# Altium schematic symbol library Altera.SchLib: 5 symbols (part 1 of 2)
Pins are listed as number, name and electrical type; pins without a type are passive.

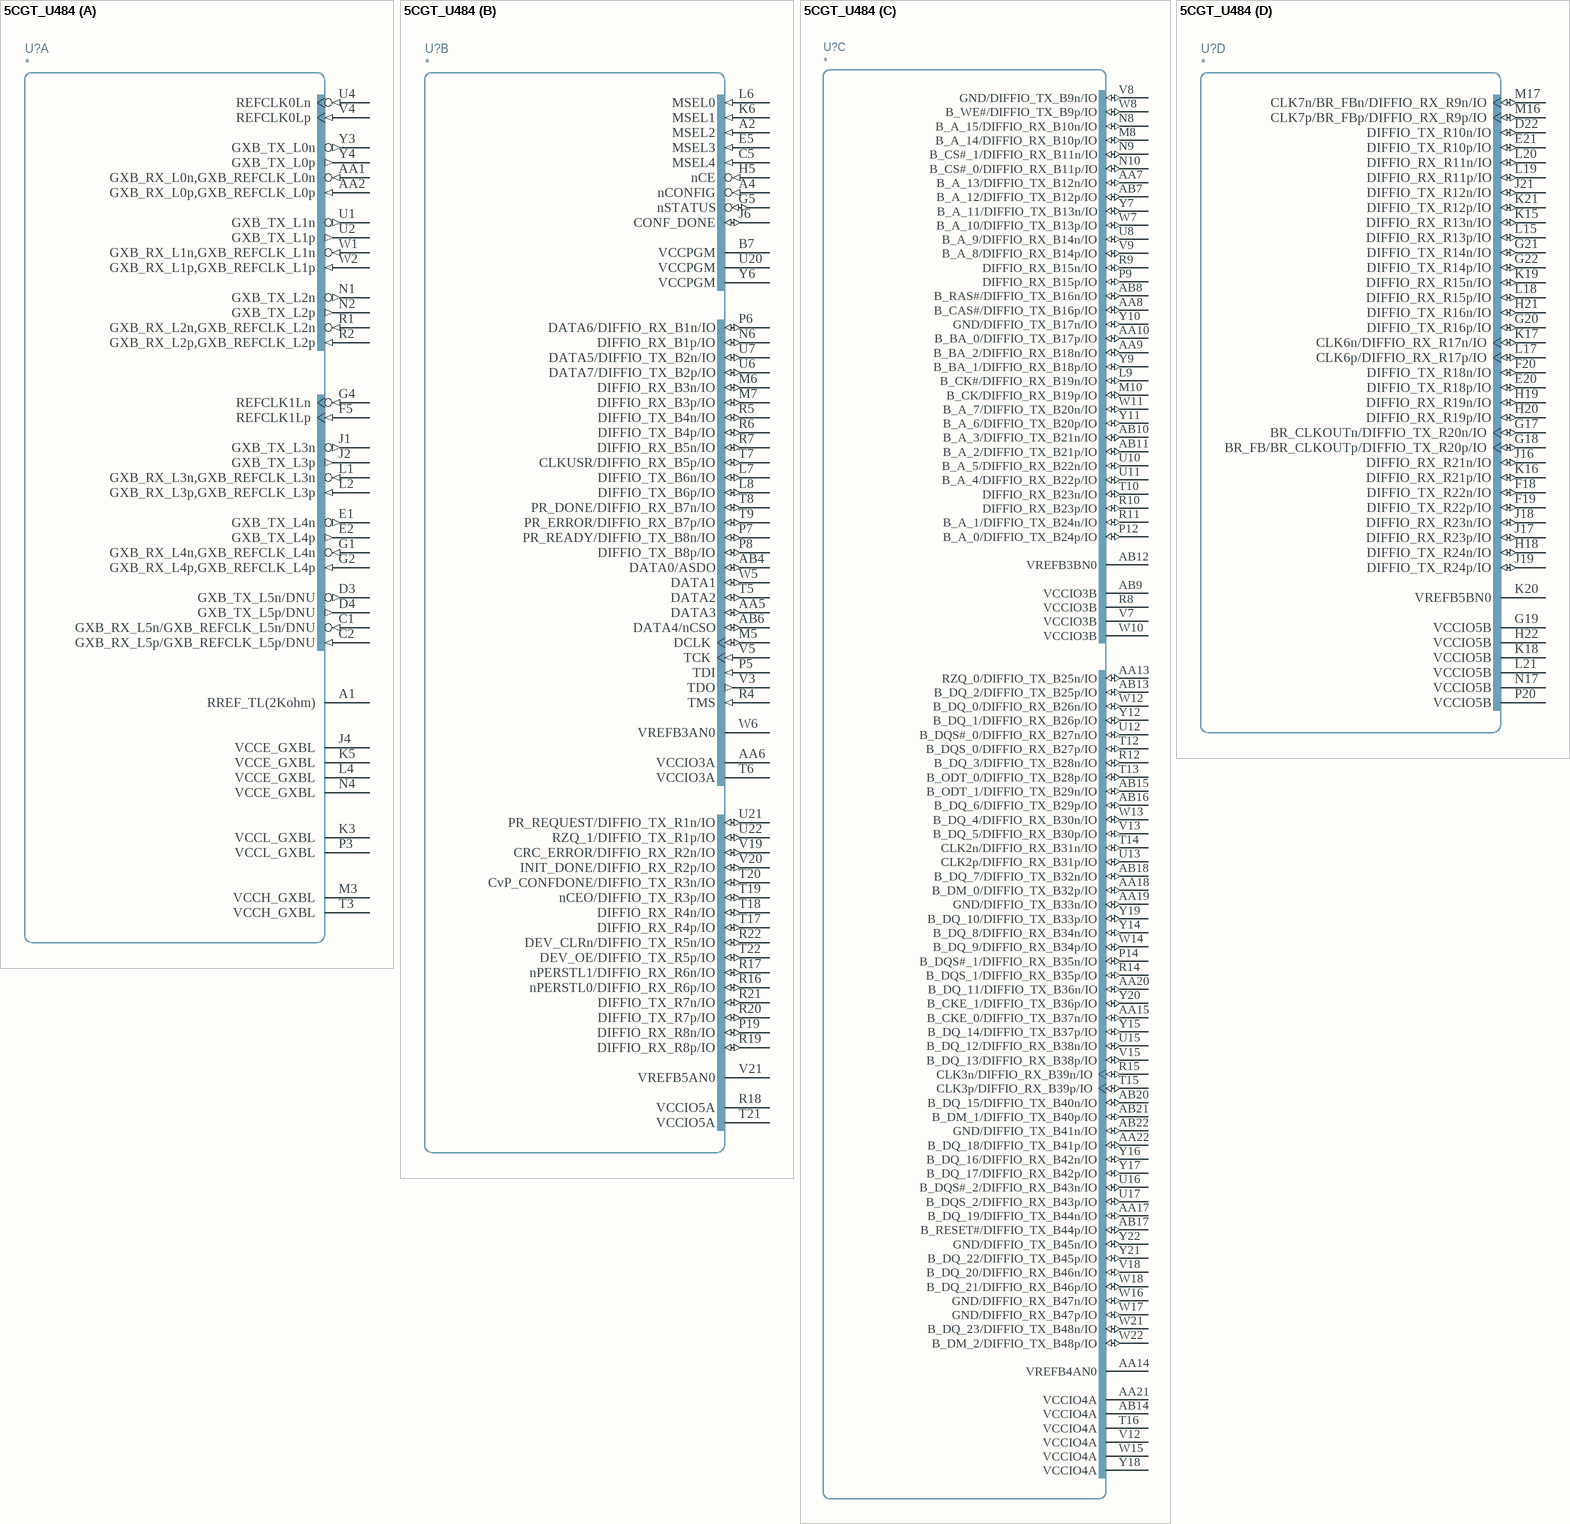
[diagram p0: symbol 5CGT_U484]

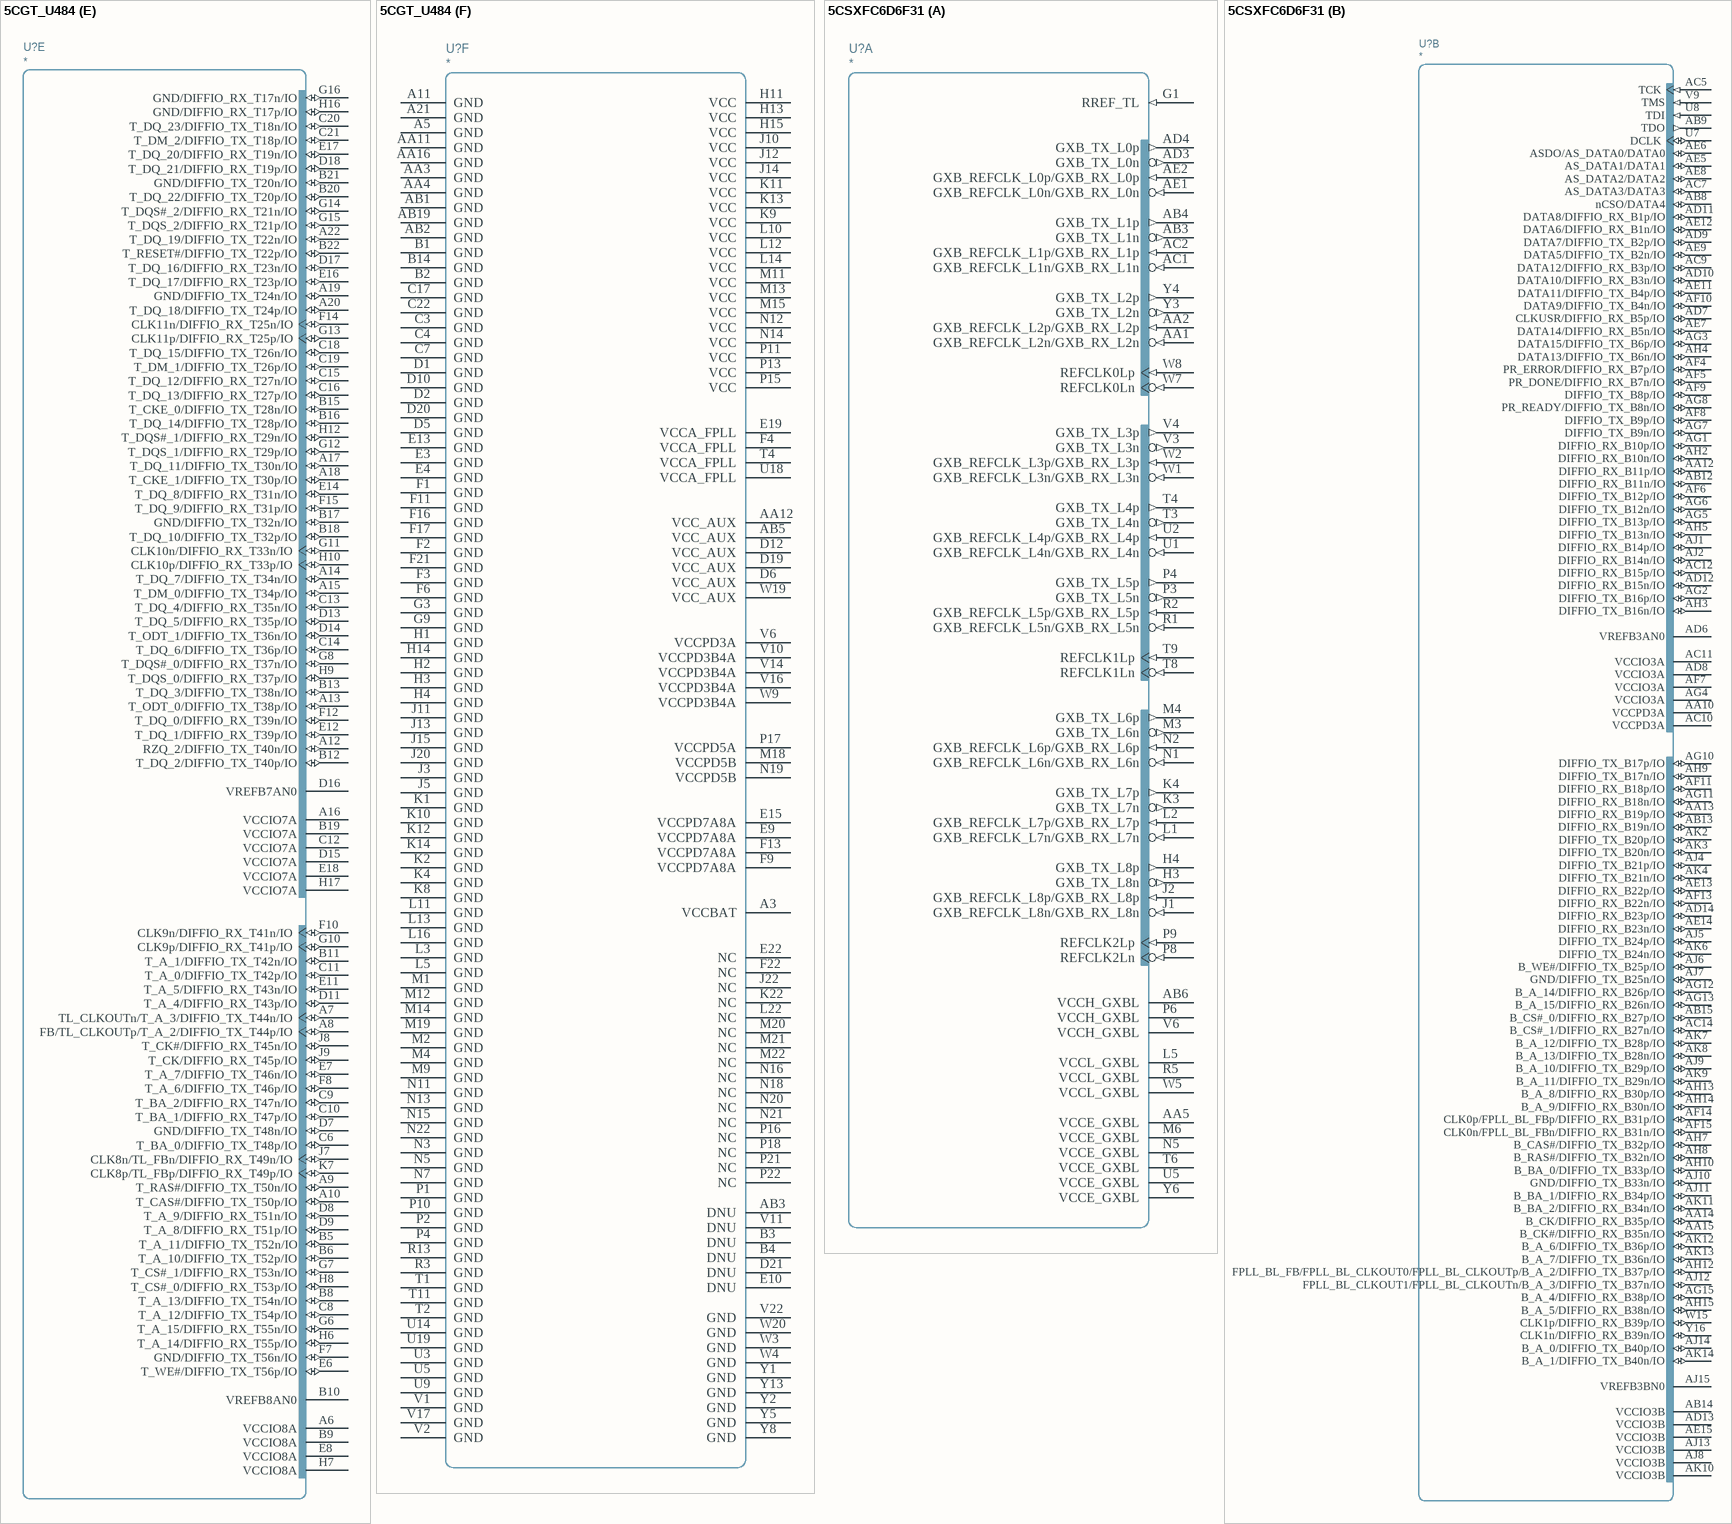
[diagram p1: symbols 5CGT_U484 to 5CSXFC6D6F31]

## 5CGT_U484
designator U?
part A pins: A1 RREF_TL(2Kohm), AA1 GXB_RX_L0n,GXB_REFCLK_L0n (in), AA2 GXB_RX_L0p,GXB_REFCLK_L0p (in), C1 GXB_RX_L5n/GXB_REFCLK_L5n/DNU (in), C2 GXB_RX_L5p/GXB_REFCLK_L5p/DNU (in), D3 GXB_TX_L5n/DNU (out), D4 GXB_TX_L5p/DNU (out), E1 GXB_TX_L4n (out), E2 GXB_TX_L4p (out), F5 REFCLK1Lp (in), G1 GXB_RX_L4n,GXB_REFCLK_L4n (in), G2 GXB_RX_L4p,GXB_REFCLK_L4p (in), G4 REFCLK1Ln (in), J1 GXB_TX_L3n (out), J2 GXB_TX_L3p (out), J4 VCCE_GXBL, K3 VCCL_GXBL, K5 VCCE_GXBL, L1 GXB_RX_L3n,GXB_REFCLK_L3n (in), L2 GXB_RX_L3p,GXB_REFCLK_L3p (in), L4 VCCE_GXBL, M3 VCCH_GXBL, N1 GXB_TX_L2n (out), N2 GXB_TX_L2p (out), N4 VCCE_GXBL, P3 VCCL_GXBL, R1 GXB_RX_L2n,GXB_REFCLK_L2n (in), R2 GXB_RX_L2p,GXB_REFCLK_L2p (in), T3 VCCH_GXBL, U1 GXB_TX_L1n (out), U2 GXB_TX_L1p (out), U4 REFCLK0Ln (in), V4 REFCLK0Lp (in), W1 GXB_RX_L1n,GXB_REFCLK_L1n (in), W2 GXB_RX_L1p,GXB_REFCLK_L1p (in), Y3 GXB_TX_L0n (out), Y4 GXB_TX_L0p (out)
part B pins: A2 MSEL2 (in), A4 nCONFIG (in), AA5 DATA3 (io), AA6 VCCIO3A, AB4 DATA0/ASDO (io), AB6 DATA4/nCSO (io), B7 VCCPGM, C5 MSEL4 (in), E5 MSEL3 (in), G5 nSTATUS (io), H5 nCE (in), J6 CONF_DONE (io), K6 MSEL1 (in), L6 MSEL0 (in), L7 DIFFIO_TX_B6n/IO (io), L8 DIFFIO_TX_B6p/IO (io), M5 DCLK (io), M6 DIFFIO_RX_B3n/IO (io), M7 DIFFIO_RX_B3p/IO (io), N6 DIFFIO_RX_B1p/IO (io), P5 TDI (in), P6 DATA6/DIFFIO_RX_B1n/IO (io), P7 PR_READY/DIFFIO_TX_B8n/IO (io), P8 DIFFIO_TX_B8p/IO (io), P19 DIFFIO_RX_R8n/IO (io), R4 TMS (in), R5 DIFFIO_TX_B4n/IO (io), R6 DIFFIO_TX_B4p/IO (io), R7 DIFFIO_RX_B5n/IO (io), R16 nPERSTL0/DIFFIO_RX_R6p/IO (io), R17 nPERSTL1/DIFFIO_RX_R6n/IO (io), R18 VCCIO5A, R19 DIFFIO_RX_R8p/IO (io), R20 DIFFIO_TX_R7p/IO (io), R21 DIFFIO_TX_R7n/IO (io), R22 DEV_CLRn/DIFFIO_TX_R5n/IO (io), T5 DATA2 (io), T6 VCCIO3A, T7 CLKUSR/DIFFIO_RX_B5p/IO (io), T8 PR_DONE/DIFFIO_RX_B7n/IO (io), T9 PR_ERROR/DIFFIO_RX_B7p/IO (io), T17 DIFFIO_RX_R4p/IO (io), T18 DIFFIO_RX_R4n/IO (io), T19 nCEO/DIFFIO_TX_R3p/IO (io), T20 CvP_CONFDONE/DIFFIO_TX_R3n/IO (io), T21 VCCIO5A, T22 DEV_OE/DIFFIO_TX_R5p/IO (io), U6 DATA7/DIFFIO_TX_B2p/IO (io), U7 DATA5/DIFFIO_TX_B2n/IO (io), U20 VCCPGM, U21 PR_REQUEST/DIFFIO_TX_R1n/IO (io), U22 RZQ_1/DIFFIO_TX_R1p/IO (io), V3 TDO (out), V5 TCK (in), V19 CRC_ERROR/DIFFIO_RX_R2n/IO (io), V20 INIT_DONE/DIFFIO_RX_R2p/IO (io), V21 VREFB5AN0, W5 DATA1 (io), W6 VREFB3AN0, Y6 VCCPGM
part C pins: AA7 B_A_13/DIFFIO_TX_B12n/IO (io), AA8 B_CAS#/DIFFIO_TX_B16p/IO (io), AA9 B_BA_2/DIFFIO_RX_B18n/IO (io), AA10 B_BA_0/DIFFIO_TX_B17p/IO (io), AA13 RZQ_0/DIFFIO_TX_B25n/IO (io), AA14 VREFB4AN0, AA15 B_CKE_0/DIFFIO_TX_B37n/IO (io), AA17 B_DQ_19/DIFFIO_TX_B44n/IO (io), AA18 B_DM_0/DIFFIO_TX_B32p/IO (io), AA19 GND/DIFFIO_TX_B33n/IO (io), AA20 B_DQ_11/DIFFIO_TX_B36n/IO (io), AA21 VCCIO4A, AA22 B_DQ_18/DIFFIO_TX_B41p/IO (io), AB7 B_A_12/DIFFIO_TX_B12p/IO (io), AB8 B_RAS#/DIFFIO_TX_B16n/IO (io), AB9 VCCIO3B, AB10 B_A_3/DIFFIO_TX_B21n/IO (io), AB11 B_A_2/DIFFIO_TX_B21p/IO (io), AB12 VREFB3BN0, AB13 B_DQ_2/DIFFIO_TX_B25p/IO (io), AB14 VCCIO4A, AB15 B_ODT_1/DIFFIO_TX_B29n/IO (io), AB16 B_DQ_6/DIFFIO_TX_B29p/IO (io), AB17 B_RESET#/DIFFIO_TX_B44p/IO (io), AB18 B_DQ_7/DIFFIO_TX_B32n/IO (io), AB20 B_DQ_15/DIFFIO_TX_B40n/IO (io), AB21 B_DM_1/DIFFIO_TX_B40p/IO (io), AB22 GND/DIFFIO_TX_B41n/IO (io), L9 B_CK#/DIFFIO_RX_B19n/IO (io), M8 B_A_14/DIFFIO_RX_B10p/IO (io), M10 B_CK/DIFFIO_RX_B19p/IO (io), N8 B_A_15/DIFFIO_RX_B10n/IO (io), N9 B_CS#_1/DIFFIO_RX_B11n/IO (io), N10 B_CS#_0/DIFFIO_RX_B11p/IO (io), P9 DIFFIO_RX_B15p/IO (io), P12 B_A_0/DIFFIO_TX_B24p/IO (io), P14 B_DQS#_1/DIFFIO_RX_B35n/IO (io), R8 VCCIO3B, R9 DIFFIO_RX_B15n/IO (io), R10 DIFFIO_RX_B23p/IO (io), R11 B_A_1/DIFFIO_TX_B24n/IO (io), R12 B_DQ_3/DIFFIO_TX_B28n/IO (io), R14 B_DQS_1/DIFFIO_RX_B35p/IO (io), R15 CLK3n/DIFFIO_RX_B39n/IO (io), T10 DIFFIO_RX_B23n/IO (io), T12 B_DQS_0/DIFFIO_RX_B27p/IO (io), T13 B_ODT_0/DIFFIO_TX_B28p/IO (io), T14 CLK2n/DIFFIO_RX_B31n/IO (io), T15 CLK3p/DIFFIO_RX_B39p/IO (io), T16 VCCIO4A, U8 B_A_9/DIFFIO_RX_B14n/IO (io), U10 B_A_5/DIFFIO_RX_B22n/IO (io), U11 B_A_4/DIFFIO_RX_B22p/IO (io), U12 B_DQS#_0/DIFFIO_RX_B27n/IO (io), U13 CLK2p/DIFFIO_RX_B31p/IO (io), U15 B_DQ_12/DIFFIO_RX_B38n/IO (io), U16 B_DQS#_2/DIFFIO_RX_B43n/IO (io), U17 B_DQS_2/DIFFIO_RX_B43p/IO (io), V7 VCCIO3B, V8 GND/DIFFIO_TX_B9n/IO (io), V9 B_A_8/DIFFIO_RX_B14p/IO (io), V12 VCCIO4A, V13 B_DQ_5/DIFFIO_RX_B30p/IO (io), V15 B_DQ_13/DIFFIO_RX_B38p/IO (io), V18 B_DQ_20/DIFFIO_RX_B46n/IO (io), W7 B_A_10/DIFFIO_TX_B13p/IO (io), W8 B_WE#/DIFFIO_TX_B9p/IO (io), W10 VCCIO3B, W11 B_A_7/DIFFIO_TX_B20n/IO (io), W12 B_DQ_0/DIFFIO_RX_B26n/IO (io), W13 B_DQ_4/DIFFIO_RX_B30n/IO (io), W14 B_DQ_9/DIFFIO_RX_B34p/IO (io), W15 VCCIO4A, W16 GND/DIFFIO_RX_B47n/IO (io), W17 GND/DIFFIO_RX_B47p/IO (io), W18 B_DQ_21/DIFFIO_RX_B46p/IO (io), W21 B_DQ_23/DIFFIO_TX_B48n/IO (io), W22 B_DM_2/DIFFIO_TX_B48p/IO (io), Y7 B_A_11/DIFFIO_TX_B13n/IO (io), Y9 B_BA_1/DIFFIO_RX_B18p/IO (io), Y10 GND/DIFFIO_TX_B17n/IO (io), Y11 B_A_6/DIFFIO_TX_B20p/IO (io), Y12 B_DQ_1/DIFFIO_RX_B26p/IO (io), Y14 B_DQ_8/DIFFIO_RX_B34n/IO (io), Y15 B_DQ_14/DIFFIO_TX_B37p/IO (io), Y16 B_DQ_16/DIFFIO_RX_B42n/IO (io), Y17 B_DQ_17/DIFFIO_RX_B42p/IO (io), Y18 VCCIO4A, Y19 B_DQ_10/DIFFIO_TX_B33p/IO (io), Y20 B_CKE_1/DIFFIO_TX_B36p/IO (io), Y21 B_DQ_22/DIFFIO_TX_B45p/IO (io), Y22 GND/DIFFIO_TX_B45n/IO (io)
part D pins: D22 DIFFIO_TX_R10n/IO (io), E20 DIFFIO_TX_R18p/IO (io), E21 DIFFIO_TX_R10p/IO (io), F18 DIFFIO_TX_R22n/IO (io), F19 DIFFIO_TX_R22p/IO (io), F20 DIFFIO_TX_R18n/IO (io), G17 BR_CLKOUTn/DIFFIO_TX_R20n/IO (io), G18 BR_FB/BR_CLKOUTp/DIFFIO_TX_R20p/IO (io), G19 VCCIO5B, G20 DIFFIO_TX_R16p/IO (io), G21 DIFFIO_TX_R14n/IO (io), G22 DIFFIO_TX_R14p/IO (io), H18 DIFFIO_TX_R24n/IO (io), H19 DIFFIO_RX_R19n/IO (io), H20 DIFFIO_RX_R19p/IO (io), H21 DIFFIO_TX_R16n/IO (io), H22 VCCIO5B, J16 DIFFIO_RX_R21n/IO (io), J17 DIFFIO_RX_R23p/IO (io), J18 DIFFIO_RX_R23n/IO (io), J19 DIFFIO_TX_R24p/IO (io), J21 DIFFIO_TX_R12n/IO (io), K15 DIFFIO_RX_R13n/IO (io), K16 DIFFIO_RX_R21p/IO (io), K17 CLK6n/DIFFIO_RX_R17n/IO (io), K18 VCCIO5B, K19 DIFFIO_RX_R15n/IO (io), K20 VREFB5BN0, K21 DIFFIO_TX_R12p/IO (io), L15 DIFFIO_RX_R13p/IO (io), L17 CLK6p/DIFFIO_RX_R17p/IO (io), L18 DIFFIO_RX_R15p/IO (io), L19 DIFFIO_RX_R11p/IO (io), L20 DIFFIO_RX_R11n/IO (io), L21 VCCIO5B, M16 CLK7p/BR_FBp/DIFFIO_RX_R9p/IO (io), M17 CLK7n/BR_FBn/DIFFIO_RX_R9n/IO (io), N17 VCCIO5B, P20 VCCIO5B
part E pins: A6 VCCIO8A, A7 TL_CLKOUTn/T_A_3/DIFFIO_TX_T44n/IO (io), A8 FB/TL_CLKOUTp/T_A_2/DIFFIO_TX_T44p/IO (io), A9 T_RAS#/DIFFIO_TX_T50n/IO (io), A10 T_CAS#/DIFFIO_TX_T50p/IO (io), A12 RZQ_2/DIFFIO_TX_T40n/IO (io), A13 T_ODT_0/DIFFIO_TX_T38p/IO (io), A14 T_DQ_7/DIFFIO_TX_T34n/IO (io), A15 T_DM_0/DIFFIO_TX_T34p/IO (io), A16 VCCIO7A, A17 T_DQ_11/DIFFIO_TX_T30n/IO (io), A18 T_CKE_1/DIFFIO_TX_T30p/IO (io), A19 GND/DIFFIO_TX_T24n/IO (io), A20 T_DQ_18/DIFFIO_TX_T24p/IO (io), A22 T_DQ_19/DIFFIO_TX_T22n/IO (io), B5 T_A_11/DIFFIO_TX_T52n/IO (io), B6 T_A_10/DIFFIO_TX_T52p/IO (io), B8 T_A_13/DIFFIO_TX_T54n/IO (io), B9 VCCIO8A, B10 VREFB8AN0, B11 T_A_1/DIFFIO_TX_T42n/IO (io), B12 T_DQ_2/DIFFIO_TX_T40p/IO (io), B13 T_DQ_3/DIFFIO_TX_T38n/IO (io), B15 T_CKE_0/DIFFIO_TX_T28n/IO (io), B16 T_DQ_14/DIFFIO_TX_T28p/IO (io), B17 GND/DIFFIO_TX_T32n/IO (io), B18 T_DQ_10/DIFFIO_TX_T32p/IO (io), B19 VCCIO7A, B20 T_DQ_22/DIFFIO_TX_T20p/IO (io), B21 GND/DIFFIO_TX_T20n/IO (io), B22 T_RESET#/DIFFIO_TX_T22p/IO (io), C6 T_BA_0/DIFFIO_TX_T48p/IO (io), C8 T_A_12/DIFFIO_TX_T54p/IO (io), C9 T_BA_2/DIFFIO_RX_T47n/IO (io), C10 T_BA_1/DIFFIO_RX_T47p/IO (io), C11 T_A_0/DIFFIO_TX_T42p/IO (io), C12 VCCIO7A, C13 T_DQ_4/DIFFIO_RX_T35n/IO (io), C14 T_DQ_6/DIFFIO_TX_T36p/IO (io), C15 T_DQ_12/DIFFIO_RX_T27n/IO (io), C16 T_DQ_13/DIFFIO_RX_T27p/IO (io), C18 T_DQ_15/DIFFIO_TX_T26n/IO (io), C19 T_DM_1/DIFFIO_TX_T26p/IO (io), C20 T_DQ_23/DIFFIO_TX_T18n/IO (io), C21 T_DM_2/DIFFIO_TX_T18p/IO (io), D7 GND/DIFFIO_TX_T48n/IO (io), D8 T_A_9/DIFFIO_RX_T51n/IO (io), D9 T_A_8/DIFFIO_RX_T51p/IO (io), D11 T_A_4/DIFFIO_RX_T43p/IO (io), D13 T_DQ_5/DIFFIO_RX_T35p/IO (io), D14 T_ODT_1/DIFFIO_TX_T36n/IO (io), D15 VCCIO7A, D16 VREFB7AN0, D17 T_DQ_16/DIFFIO_RX_T23n/IO (io), D18 T_DQ_21/DIFFIO_RX_T19p/IO (io), E6 T_WE#/DIFFIO_TX_T56p/IO (io), E7 T_A_7/DIFFIO_TX_T46n/IO (io), E8 VCCIO8A, E11 T_A_5/DIFFIO_RX_T43n/IO (io), E12 T_DQ_1/DIFFIO_RX_T39p/IO (io), E14 T_DQ_8/DIFFIO_RX_T31n/IO (io), E16 T_DQ_17/DIFFIO_RX_T23p/IO (io), E17 T_DQ_20/DIFFIO_RX_T19n/IO (io), E18 VCCIO7A, F7 GND/DIFFIO_TX_T56n/IO (io), F8 T_A_6/DIFFIO_TX_T46p/IO (io), F10 CLK9n/DIFFIO_RX_T41n/IO (io), F12 T_DQ_0/DIFFIO_RX_T39n/IO (io), F14 CLK11n/DIFFIO_RX_T25n/IO (io), F15 T_DQ_9/DIFFIO_RX_T31p/IO (io), G6 T_A_15/DIFFIO_RX_T55n/IO (io), G7 T_CS#_1/DIFFIO_RX_T53n/IO (io), G8 T_DQS#_0/DIFFIO_RX_T37n/IO (io), G10 CLK9p/DIFFIO_RX_T41p/IO (io), G11 CLK10n/DIFFIO_RX_T33n/IO (io), G12 T_DQS_1/DIFFIO_RX_T29p/IO (io), G13 CLK11p/DIFFIO_RX_T25p/IO (io), G14 T_DQS#_2/DIFFIO_RX_T21n/IO (io), G15 T_DQS_2/DIFFIO_RX_T21p/IO (io), G16 GND/DIFFIO_RX_T17n/IO (io), H6 T_A_14/DIFFIO_RX_T55p/IO (io), H7 VCCIO8A, H8 T_CS#_0/DIFFIO_RX_T53p/IO (io), H9 T_DQS_0/DIFFIO_RX_T37p/IO (io), H10 CLK10p/DIFFIO_RX_T33p/IO (io), H12 T_DQS#_1/DIFFIO_RX_T29n/IO (io), H16 GND/DIFFIO_RX_T17p/IO (io), H17 VCCIO7A, J7 CLK8n/TL_FBn/DIFFIO_RX_T49n/IO (io), J8 T_CK#/DIFFIO_RX_T45n/IO (io), J9 T_CK/DIFFIO_RX_T45p/IO (io), K7 CLK8p/TL_FBp/DIFFIO_RX_T49p/IO (io)
part F pins: A3 VCCBAT, A5 GND, A11 GND, A21 GND, AA3 GND, AA4 GND, AA11 GND, AA12 VCC_AUX, AA16 GND, AB1 GND, AB2 GND, AB3 DNU, AB5 VCC_AUX, AB19 GND, B1 GND, B2 GND, B3 DNU, B4 DNU, B14 GND, C3 GND, C4 GND, C7 GND, C17 GND, C22 GND, D1 GND, D2 GND, D5 GND, D6 VCC_AUX, D10 GND, D12 VCC_AUX, D19 VCC_AUX, D20 GND, D21 DNU, E3 GND, E4 GND, E9 VCCPD7A8A, E10 DNU, E13 GND, E15 VCCPD7A8A, E19 VCCA_FPLL, E22 NC, F1 GND, F2 GND, F3 GND, F4 VCCA_FPLL, F6 GND, F9 VCCPD7A8A, F11 GND, F13 VCCPD7A8A, F16 GND, F17 GND, F21 GND, F22 NC, G3 GND, G9 GND, H1 GND, H2 GND, H3 GND, H4 GND, H11 VCC, H13 VCC, H14 GND, H15 VCC, J3 GND, J5 GND, J10 VCC, J11 GND, J12 VCC, J13 GND, J14 VCC, J15 GND, J20 GND, J22 NC, K1 GND, K2 GND, K4 GND, K8 GND, K9 VCC, K10 GND, K11 VCC, K12 GND, K13 VCC, K14 GND, K22 NC, L3 GND, L5 GND, L10 VCC, L11 GND, L12 VCC, L13 GND, L14 VCC, L16 GND, L22 NC, M1 GND, M2 GND, M4 GND, M9 GND, M11 VCC, M12 GND, M13 VCC, M14 GND, M15 VCC, M18 VCCPD5B, M19 GND, M20 NC, M21 NC, M22 NC, N3 GND, N5 GND, N7 GND, N11 GND, N12 VCC, N13 GND, N14 VCC, N15 GND, N16 NC, N18 NC, N19 VCCPD5B, N20 NC, N21 NC, N22 GND, P1 GND, P2 GND, P4 GND, P10 GND, P11 VCC, P13 VCC, P15 VCC, P16 NC, P17 VCCPD5A, P18 NC, P21 NC, P22 NC, R3 GND, R13 GND, T1 GND, T2 GND, T4 VCCA_FPLL, T11 GND, U3 GND, U5 GND, U9 GND, U14 GND, U18 VCCA_FPLL, U19 GND, V1 GND, V2 GND, V6 VCCPD3A, V10 VCCPD3B4A, V11 DNU, V14 VCCPD3B4A, V16 VCCPD3B4A, V17 GND, V22 GND, W3 GND, W4 GND, W9 VCCPD3B4A, W19 VCC_AUX, W20 GND, Y1 GND, Y2 GND, Y5 GND, Y8 GND, Y13 GND

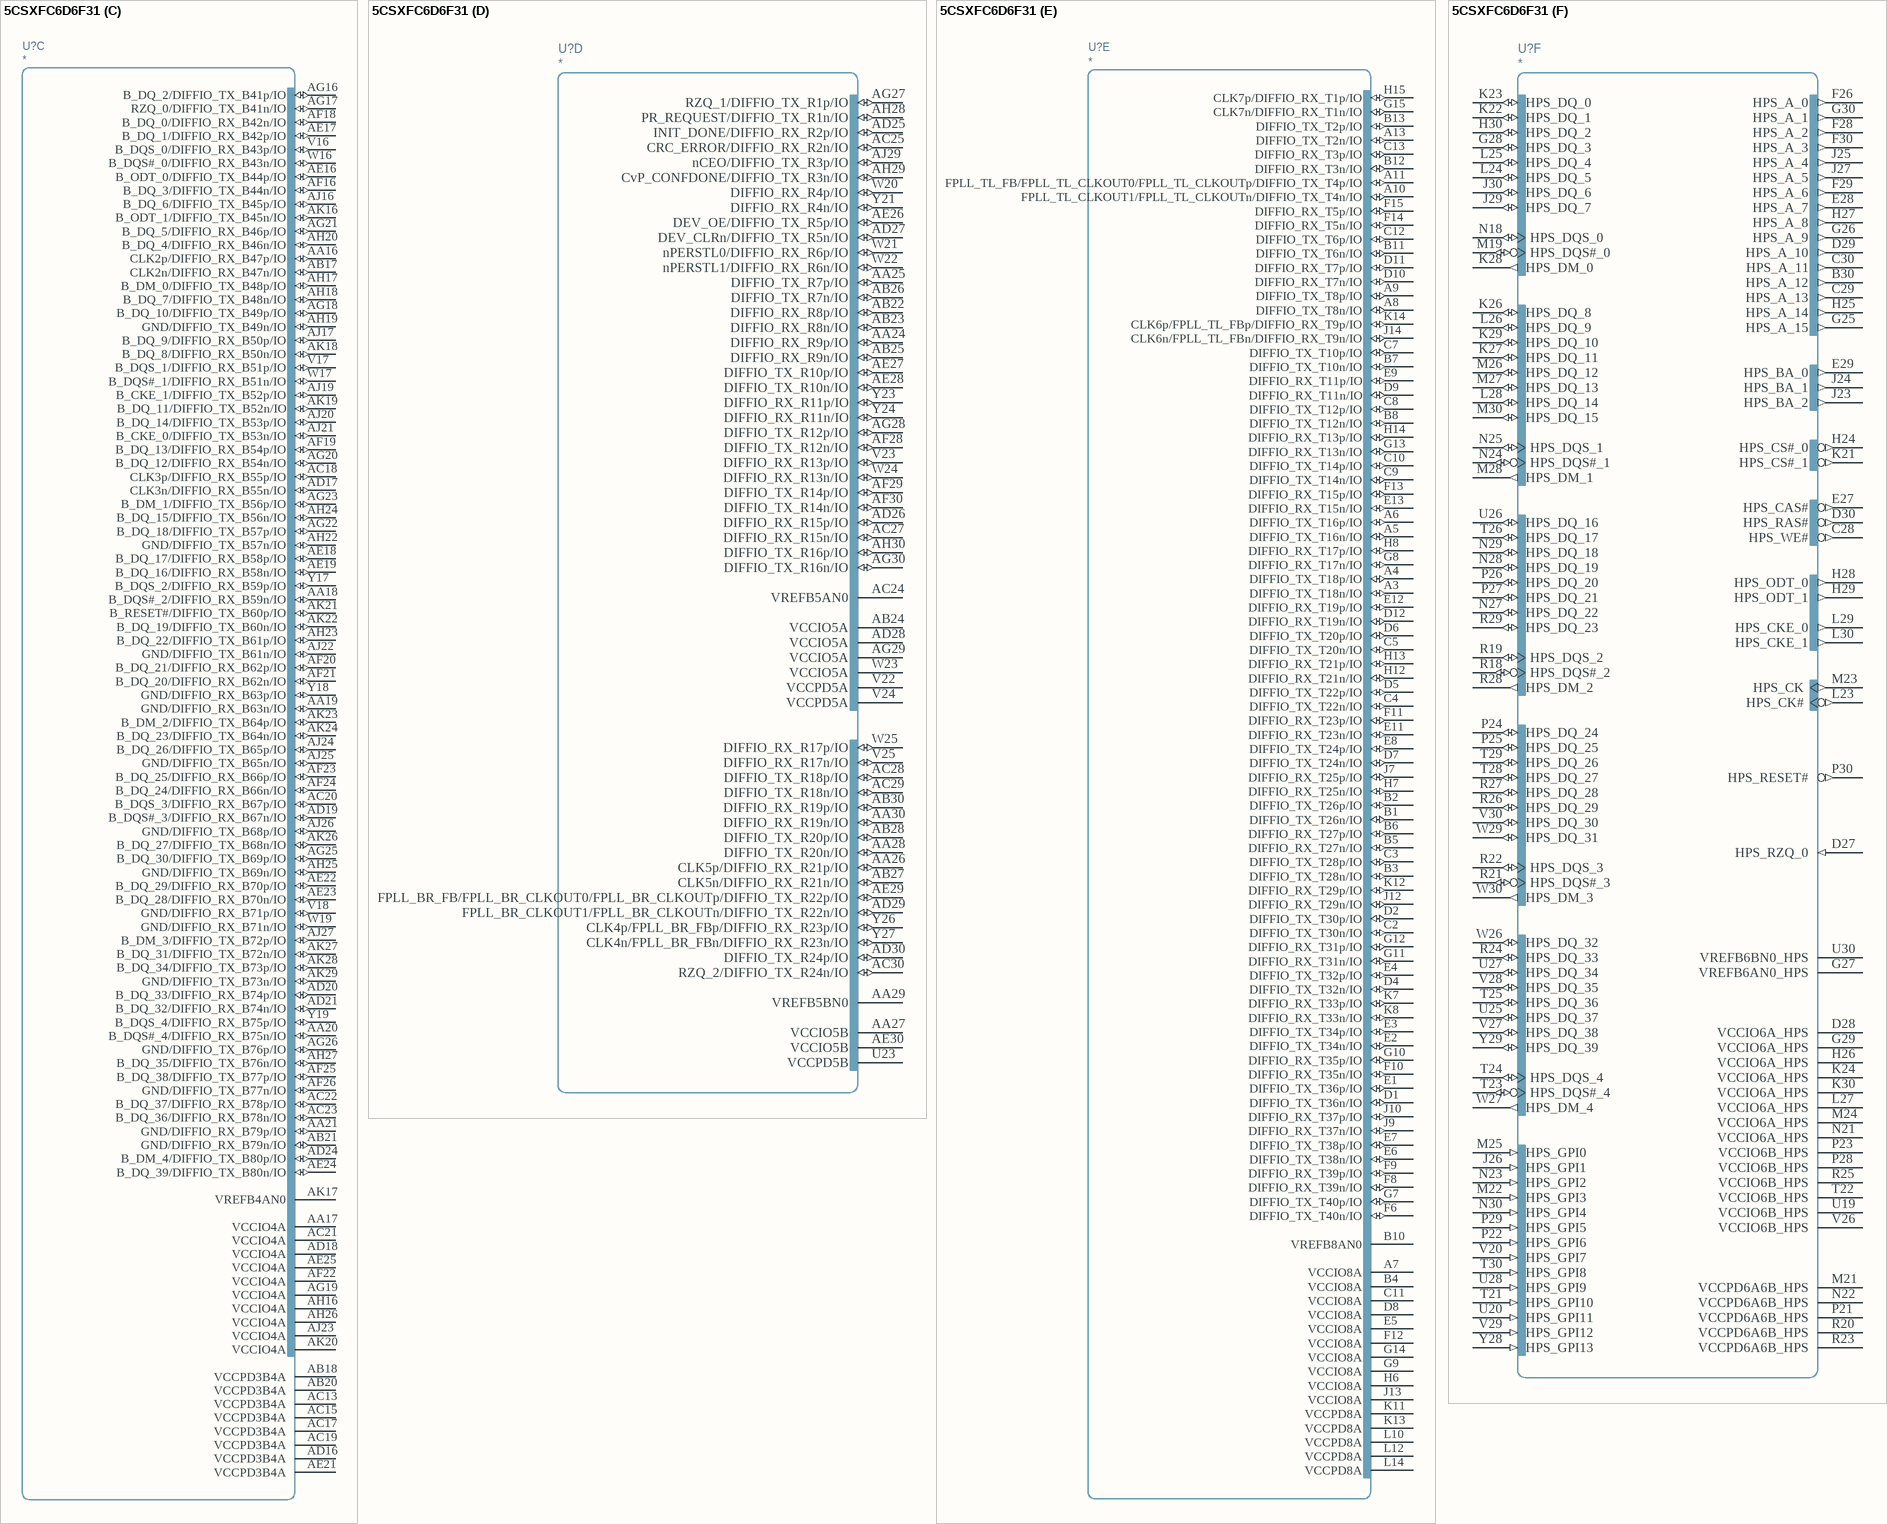
[diagram p2: symbol 5CSXFC6D6F31]

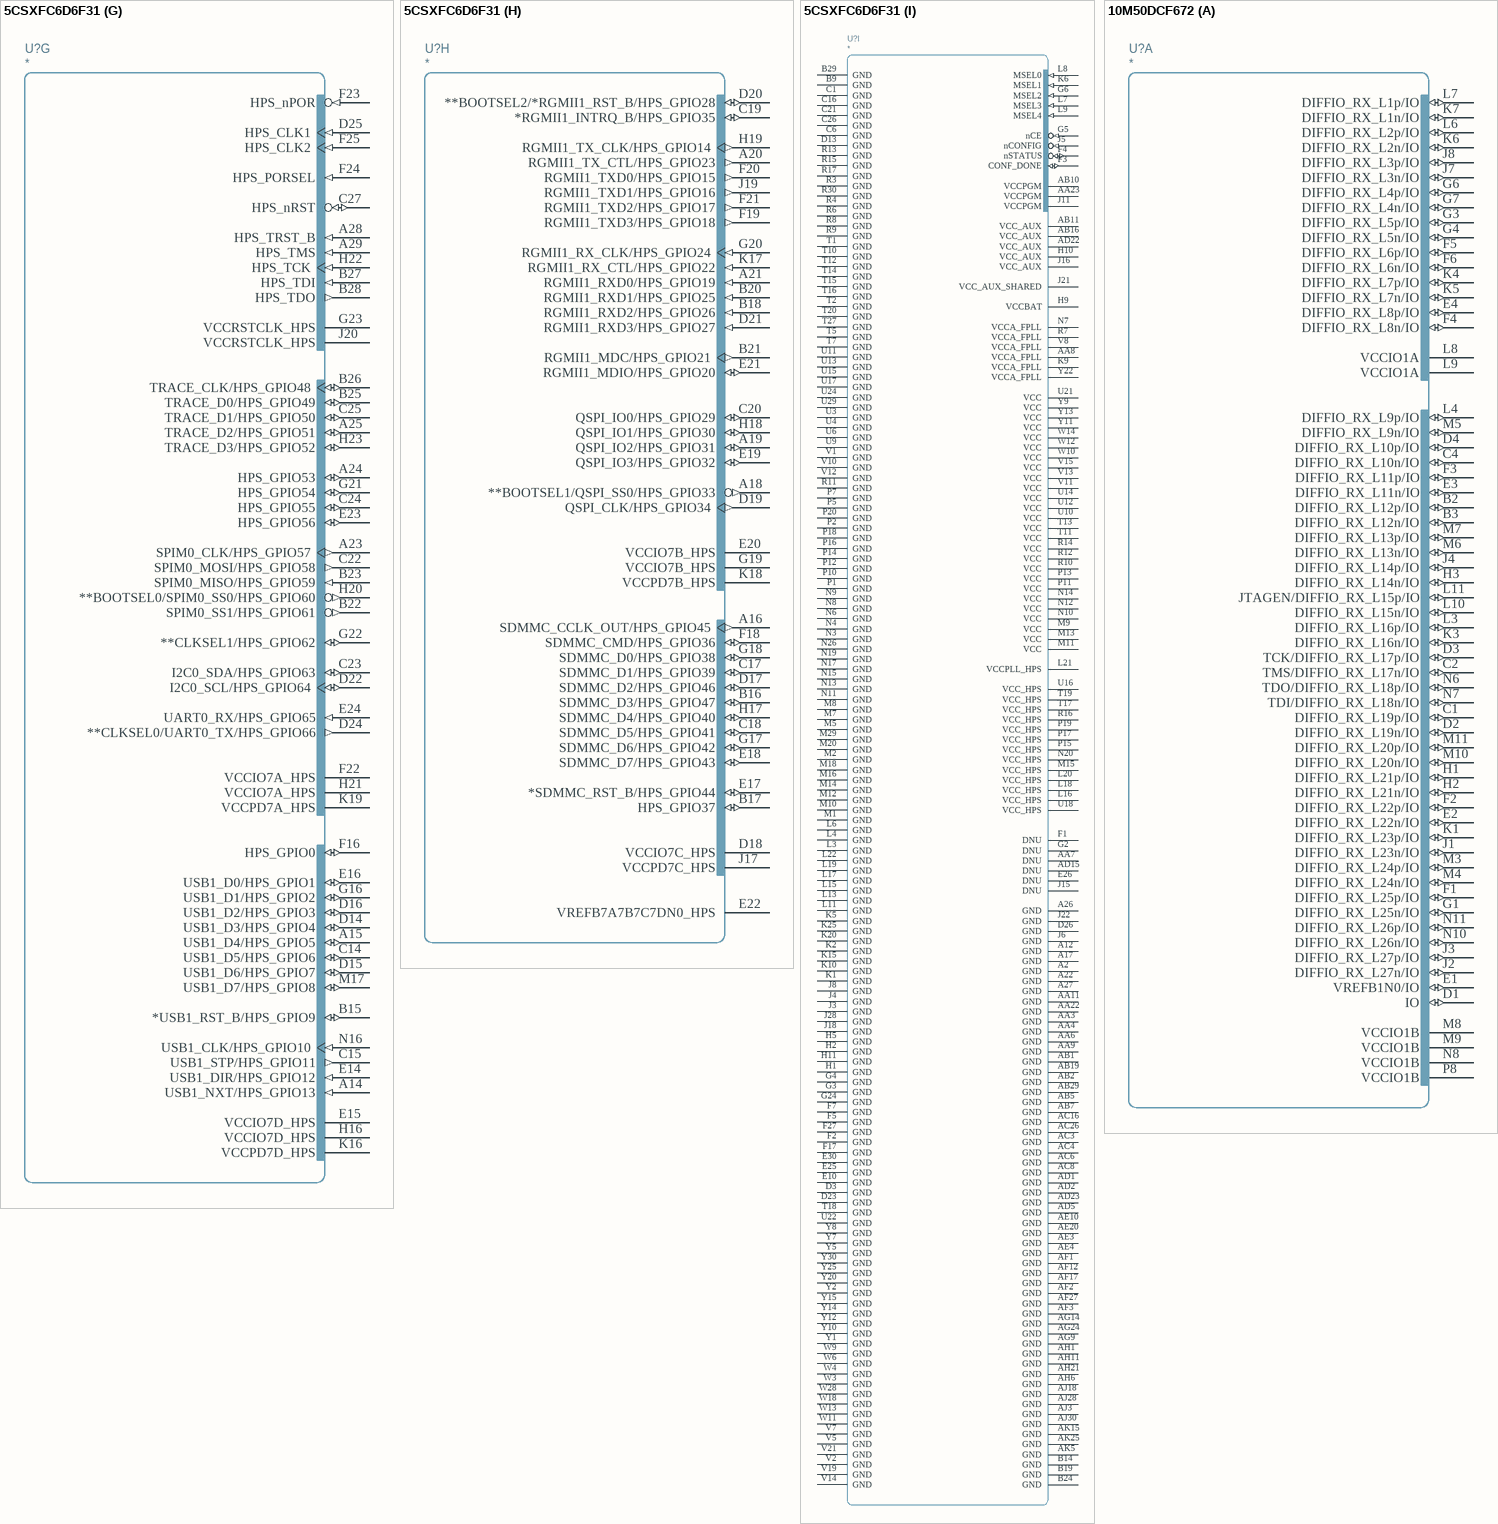
[diagram p3: symbols 5CSXFC6D6F31 to 10M50DCF672]

## 5CSXFC6D6F31
designator U?
part A pins: AA1 GXB_REFCLK_L2n/GXB_RX_L2n (in), AA2 GXB_REFCLK_L2p/GXB_RX_L2p (in), AA5 VCCE_GXBL, AB3 GXB_TX_L1n (out), AB4 GXB_TX_L1p (out), AB6 VCCH_GXBL, AC1 GXB_REFCLK_L1n/GXB_RX_L1n (in), AC2 GXB_REFCLK_L1p/GXB_RX_L1p (in), AD3 GXB_TX_L0n (out), AD4 GXB_TX_L0p (out), AE1 GXB_REFCLK_L0n/GXB_RX_L0n (in), AE2 GXB_REFCLK_L0p/GXB_RX_L0p (in), G1 RREF_TL (in), H3 GXB_TX_L8n (out), H4 GXB_TX_L8p (out), J1 GXB_REFCLK_L8n/GXB_RX_L8n (in), J2 GXB_REFCLK_L8p/GXB_RX_L8p (in), K3 GXB_TX_L7n (out), K4 GXB_TX_L7p (out), L1 GXB_REFCLK_L7n/GXB_RX_L7n (in), L2 GXB_REFCLK_L7p/GXB_RX_L7p (in), L5 VCCL_GXBL, M3 GXB_TX_L6n (out), M4 GXB_TX_L6p (out), M6 VCCE_GXBL, N1 GXB_REFCLK_L6n/GXB_RX_L6n (in), N2 GXB_REFCLK_L6p/GXB_RX_L6p (in), N5 VCCE_GXBL, P3 GXB_TX_L5n (out), P4 GXB_TX_L5p (out), P6 VCCH_GXBL, P8 REFCLK2Ln (in), P9 REFCLK2Lp (in), R1 GXB_REFCLK_L5n/GXB_RX_L5n (in), R2 GXB_REFCLK_L5p/GXB_RX_L5p (in), R5 VCCL_GXBL, T3 GXB_TX_L4n (out), T4 GXB_TX_L4p (out), T6 VCCE_GXBL, T8 REFCLK1Ln (in), T9 REFCLK1Lp (in), U1 GXB_REFCLK_L4n/GXB_RX_L4n (in), U2 GXB_REFCLK_L4p/GXB_RX_L4p (in), U5 VCCE_GXBL, V3 GXB_TX_L3n (out), V4 GXB_TX_L3p (out), V6 VCCH_GXBL, W1 GXB_REFCLK_L3n/GXB_RX_L3n (in), W2 GXB_REFCLK_L3p/GXB_RX_L3p (in), W5 VCCL_GXBL, W7 REFCLK0Ln (in), W8 REFCLK0Lp (in), Y3 GXB_TX_L2n (out), Y4 GXB_TX_L2p (out), Y6 VCCE_GXBL
part B pins: AA10 VCCPD3A, AA12 DIFFIO_RX_B11p/IO (io), AA13 DIFFIO_RX_B19p/IO (io), AA14 B_CK/DIFFIO_RX_B35p/IO (io), AA15 B_CK#/DIFFIO_RX_B35n/IO (io), AB8 nCSO/DATA4 (io), AB9 TDO (out), AB12 DIFFIO_RX_B11n/IO (io), AB13 DIFFIO_RX_B19n/IO (io), AB14 VCCIO3B, AB15 B_CS#_0/DIFFIO_RX_B27p/IO (io), AC5 TCK (in), AC7 AS_DATA3/DATA3 (io), AC9 DATA12/DIFFIO_RX_B3p/IO (io), AC10 VCCPD3A, AC11 VCCIO3A, AC12 DIFFIO_RX_B15p/IO (io), AC14 B_CS#_1/DIFFIO_RX_B27n/IO (io), AD6 VREFB3AN0, AD7 CLKUSR/DIFFIO_RX_B5p/IO (io), AD8 VCCIO3A, AD9 DATA7/DIFFIO_TX_B2p/IO (io), AD10 DATA10/DIFFIO_RX_B3n/IO (io), AD11 DATA8/DIFFIO_RX_B1p/IO (io), AD12 DIFFIO_RX_B15n/IO (io), AD13 VCCIO3B, AD14 DIFFIO_RX_B23p/IO (io), AE5 AS_DATA1/DATA1 (io), AE6 ASDO/AS_DATA0/DATA0 (io), AE7 DATA14/DIFFIO_RX_B5n/IO (io), AE8 AS_DATA2/DATA2 (io), AE9 DATA5/DIFFIO_TX_B2n/IO (io), AE11 DATA11/DIFFIO_TX_B4p/IO (io), AE12 DATA6/DIFFIO_RX_B1n/IO (io), AE13 DIFFIO_RX_B22p/IO (io), AE14 DIFFIO_RX_B23n/IO (io), AE15 VCCIO3B, AF4 PR_ERROR/DIFFIO_RX_B7p/IO (io), AF5 PR_DONE/DIFFIO_RX_B7n/IO (io), AF6 DIFFIO_TX_B12p/IO (io), AF7 VCCIO3A, AF8 DIFFIO_TX_B9p/IO (io), AF9 DIFFIO_TX_B8p/IO (io), AF10 DATA9/DIFFIO_TX_B4n/IO (io), AF11 DIFFIO_RX_B18p/IO (io), AF13 DIFFIO_RX_B22n/IO (io), AF14 CLK0p/FPLL_BL_FBp/DIFFIO_RX_B31p/IO (io), AF15 CLK0n/FPLL_BL_FBn/DIFFIO_RX_B31n/IO (io), AG1 DIFFIO_RX_B10p/IO (io), AG2 DIFFIO_TX_B16p/IO (io), AG3 DATA15/DIFFIO_TX_B6p/IO (io), AG4 VCCIO3A, AG5 DIFFIO_TX_B13p/IO (io), AG6 DIFFIO_TX_B12n/IO (io), AG7 DIFFIO_TX_B9n/IO (io), AG8 PR_READY/DIFFIO_TX_B8n/IO (io), AG10 DIFFIO_TX_B17p/IO (io), AG11 DIFFIO_RX_B18n/IO (io), AG12 B_A_14/DIFFIO_RX_B26p/IO (io), AG13 B_A_15/DIFFIO_RX_B26n/IO (io), AG15 B_A_4/DIFFIO_RX_B38p/IO (io), AH2 DIFFIO_RX_B10n/IO (io), AH3 DIFFIO_TX_B16n/IO (io), AH4 DATA13/DIFFIO_TX_B6n/IO (io), AH5 DIFFIO_TX_B13n/IO (io), AH7 B_CAS#/DIFFIO_TX_B32p/IO (io), AH8 B_RAS#/DIFFIO_TX_B32n/IO (io), AH9 DIFFIO_TX_B17n/IO (io), AH10 B_BA_0/DIFFIO_TX_B33p/IO (io), AH12 FPLL_BL_FB/FPLL_BL_CLKOUT0/FPLL_BL_CLKOUTp/B_A_2/DIFFIO_TX_B37p/IO (io), AH13 B_A_8/DIFFIO_RX_B30p/IO (io), AH14 B_A_9/DIFFIO_RX_B30n/IO (io), AH15 B_A_5/DIFFIO_RX_B38n/IO (io), AJ1 DIFFIO_RX_B14p/IO (io), AJ2 DIFFIO_RX_B14n/IO (io), AJ4 DIFFIO_TX_B21p/IO (io), AJ5 DIFFIO_TX_B24p/IO (io), AJ6 B_WE#/DIFFIO_TX_B25p/IO (io), AJ7 GND/DIFFIO_TX_B25n/IO (io), AJ8 VCCIO3B, AJ9 B_A_10/DIFFIO_TX_B29p/IO (io), AJ10 GND/DIFFIO_TX_B33n/IO (io), AJ11 B_BA_1/DIFFIO_RX_B34p/IO (io), AJ12 FPLL_BL_CLKOUT1/FPLL_BL_CLKOUTn/B_A_3/DIFFIO_TX_B37n/IO (io), AJ13 VCCIO3B, AJ14 B_A_0/DIFFIO_TX_B40p/IO (io), AJ15 VREFB3BN0, AK2 DIFFIO_TX_B20p/IO (io), AK3 DIFFIO_TX_B20n/IO (io), AK4 DIFFIO_TX_B21n/IO (io), AK6 DIFFIO_TX_B24n/IO (io), AK7 B_A_12/DIFFIO_TX_B28p/IO (io), AK8 B_A_13/DIFFIO_TX_B28n/IO (io), AK9 B_A_11/DIFFIO_TX_B29n/IO (io), AK10 VCCIO3B, AK11 B_BA_2/DIFFIO_RX_B34n/IO (io), AK12 B_A_6/DIFFIO_TX_B36p/IO (io), AK13 B_A_7/DIFFIO_TX_B36n/IO (io), AK14 B_A_1/DIFFIO_TX_B40n/IO (io), U7 DCLK (io), U8 TDI (in), V9 TMS (in), W15 CLK1p/DIFFIO_RX_B39p/IO (io), Y16 CLK1n/DIFFIO_RX_B39n/IO (io)
part C pins: AA16 CLK2p/DIFFIO_RX_B47p/IO (io), AA17 VCCIO4A, AA18 B_DQS#_2/DIFFIO_RX_B59n/IO (io), AA19 GND/DIFFIO_RX_B63n/IO (io), AA20 B_DQS#_4/DIFFIO_RX_B75n/IO (io), AA21 GND/DIFFIO_RX_B79p/IO (io), AB17 CLK2n/DIFFIO_RX_B47n/IO (io), AB18 VCCPD3B4A, AB20 VCCPD3B4A, AB21 GND/DIFFIO_RX_B79n/IO (io), AC13 VCCPD3B4A, AC15 VCCPD3B4A, AC17 VCCPD3B4A, AC18 CLK3p/DIFFIO_RX_B55p/IO (io), AC19 VCCPD3B4A, AC20 B_DQS_3/DIFFIO_RX_B67p/IO (io), AC21 VCCIO4A, AC22 B_DQ_37/DIFFIO_RX_B78p/IO (io), AC23 B_DQ_36/DIFFIO_RX_B78n/IO (io), AD16 VCCPD3B4A, AD17 CLK3n/DIFFIO_RX_B55n/IO (io), AD18 VCCIO4A, AD19 B_DQS#_3/DIFFIO_RX_B67n/IO (io), AD20 B_DQ_33/DIFFIO_RX_B74p/IO (io), AD21 B_DQ_32/DIFFIO_RX_B74n/IO (io), AD24 B_DM_4/DIFFIO_TX_B80p/IO (io), AE16 B_ODT_0/DIFFIO_TX_B44p/IO (io), AE17 B_DQ_1/DIFFIO_RX_B42p/IO (io), AE18 B_DQ_17/DIFFIO_RX_B58p/IO (io), AE19 B_DQ_16/DIFFIO_RX_B58n/IO (io), AE21 VCCPD3B4A, AE22 B_DQ_29/DIFFIO_RX_B70p/IO (io), AE23 B_DQ_28/DIFFIO_RX_B70n/IO (io), AE24 B_DQ_39/DIFFIO_TX_B80n/IO (io), AE25 VCCIO4A, AF16 B_DQ_3/DIFFIO_TX_B44n/IO (io), AF18 B_DQ_0/DIFFIO_RX_B42n/IO (io), AF19 B_DQ_13/DIFFIO_RX_B54p/IO (io), AF20 B_DQ_21/DIFFIO_RX_B62p/IO (io), AF21 B_DQ_20/DIFFIO_RX_B62n/IO (io), AF22 VCCIO4A, AF23 B_DQ_25/DIFFIO_RX_B66p/IO (io), AF24 B_DQ_24/DIFFIO_RX_B66n/IO (io), AF25 B_DQ_38/DIFFIO_TX_B77p/IO (io), AF26 GND/DIFFIO_TX_B77n/IO (io), AG16 B_DQ_2/DIFFIO_TX_B41p/IO (io), AG17 RZQ_0/DIFFIO_TX_B41n/IO (io), AG18 B_DQ_10/DIFFIO_TX_B49p/IO (io), AG19 VCCIO4A, AG20 B_DQ_12/DIFFIO_RX_B54n/IO (io), AG21 B_DQ_5/DIFFIO_RX_B46p/IO (io), AG22 B_DQ_18/DIFFIO_TX_B57p/IO (io), AG23 B_DM_1/DIFFIO_TX_B56p/IO (io), AG25 B_DQ_30/DIFFIO_TX_B69p/IO (io), AG26 GND/DIFFIO_TX_B76p/IO (io), AH16 VCCIO4A, AH17 B_DM_0/DIFFIO_TX_B48p/IO (io), AH18 B_DQ_7/DIFFIO_TX_B48n/IO (io), AH19 GND/DIFFIO_TX_B49n/IO (io), AH20 B_DQ_4/DIFFIO_RX_B46n/IO (io), AH22 GND/DIFFIO_TX_B57n/IO (io), AH23 B_DQ_22/DIFFIO_TX_B61p/IO (io), AH24 B_DQ_15/DIFFIO_TX_B56n/IO (io), AH25 GND/DIFFIO_TX_B69n/IO (io), AH26 VCCIO4A, AH27 B_DQ_35/DIFFIO_TX_B76n/IO (io), AJ16 B_DQ_6/DIFFIO_TX_B45p/IO (io), AJ17 B_DQ_9/DIFFIO_RX_B50p/IO (io), AJ19 B_CKE_1/DIFFIO_TX_B52p/IO (io), AJ20 B_DQ_14/DIFFIO_TX_B53p/IO (io), AJ21 B_CKE_0/DIFFIO_TX_B53n/IO (io), AJ22 GND/DIFFIO_TX_B61n/IO (io), AJ23 VCCIO4A, AJ24 B_DQ_26/DIFFIO_TX_B65p/IO (io), AJ25 GND/DIFFIO_TX_B65n/IO (io), AJ26 GND/DIFFIO_TX_B68p/IO (io), AJ27 B_DM_3/DIFFIO_TX_B72p/IO (io), AK16 B_ODT_1/DIFFIO_TX_B45n/IO (io), AK17 VREFB4AN0, AK18 B_DQ_8/DIFFIO_RX_B50n/IO (io), AK19 B_DQ_11/DIFFIO_TX_B52n/IO (io), AK20 VCCIO4A, AK21 B_RESET#/DIFFIO_TX_B60p/IO (io), AK22 B_DQ_19/DIFFIO_TX_B60n/IO (io), AK23 B_DM_2/DIFFIO_TX_B64p/IO (io), AK24 B_DQ_23/DIFFIO_TX_B64n/IO (io), AK26 B_DQ_27/DIFFIO_TX_B68n/IO (io), AK27 B_DQ_31/DIFFIO_TX_B72n/IO (io), AK28 B_DQ_34/DIFFIO_TX_B73p/IO (io), AK29 GND/DIFFIO_TX_B73n/IO (io), V16 B_DQS_0/DIFFIO_RX_B43p/IO (io), V17 B_DQS_1/DIFFIO_RX_B51p/IO (io), V18 GND/DIFFIO_RX_B71p/IO (io), W16 B_DQS#_0/DIFFIO_RX_B43n/IO (io), W17 B_DQS#_1/DIFFIO_RX_B51n/IO (io), W19 GND/DIFFIO_RX_B71n/IO (io), Y17 B_DQS_2/DIFFIO_RX_B59p/IO (io), Y18 GND/DIFFIO_RX_B63p/IO (io), Y19 B_DQS_4/DIFFIO_RX_B75p/IO (io)
part D pins: AA24 DIFFIO_RX_R9p/IO (io), AA25 DIFFIO_TX_R7p/IO (io), AA26 CLK5p/DIFFIO_RX_R21p/IO (io), AA27 VCCIO5B, AA28 DIFFIO_TX_R20n/IO (io), AA29 VREFB5BN0, AA30 DIFFIO_RX_R19n/IO (io), AB22 DIFFIO_RX_R8p/IO (io), AB23 DIFFIO_RX_R8n/IO (io), AB24 VCCIO5A, AB25 DIFFIO_RX_R9n/IO (io), AB26 DIFFIO_TX_R7n/IO (io), AB27 CLK5n/DIFFIO_RX_R21n/IO (io), AB28 DIFFIO_TX_R20p/IO (io), AB30 DIFFIO_RX_R19p/IO (io), AC24 VREFB5AN0, AC25 CRC_ERROR/DIFFIO_RX_R2n/IO (io), AC27 DIFFIO_RX_R15n/IO (io), AC28 DIFFIO_TX_R18p/IO (io), AC29 DIFFIO_TX_R18n/IO (io), AC30 RZQ_2/DIFFIO_TX_R24n/IO (io), AD25 INIT_DONE/DIFFIO_RX_R2p/IO (io), AD26 DIFFIO_RX_R15p/IO (io), AD27 DEV_CLRn/DIFFIO_TX_R5n/IO (io), AD28 VCCIO5A, AD29 FPLL_BR_CLKOUT1/FPLL_BR_CLKOUTn/DIFFIO_TX_R22n/IO (io), AD30 DIFFIO_TX_R24p/IO (io), AE26 DEV_OE/DIFFIO_TX_R5p/IO (io), AE27 DIFFIO_TX_R10p/IO (io), AE28 DIFFIO_TX_R10n/IO (io), AE29 FPLL_BR_FB/FPLL_BR_CLKOUT0/FPLL_BR_CLKOUTp/DIFFIO_TX_R22p/IO (io), AE30 VCCIO5B, AF28 DIFFIO_TX_R12n/IO (io), AF29 DIFFIO_TX_R14p/IO (io), AF30 DIFFIO_TX_R14n/IO (io), AG27 RZQ_1/DIFFIO_TX_R1p/IO (io), AG28 DIFFIO_TX_R12p/IO (io), AG29 VCCIO5A, AG30 DIFFIO_TX_R16n/IO (io), AH28 PR_REQUEST/DIFFIO_TX_R1n/IO (io), AH29 CvP_CONFDONE/DIFFIO_TX_R3n/IO (io), AH30 DIFFIO_TX_R16p/IO (io), AJ29 nCEO/DIFFIO_TX_R3p/IO (io), U23 VCCPD5B, V22 VCCPD5A, V23 DIFFIO_RX_R13p/IO (io), V24 VCCPD5A, V25 DIFFIO_RX_R17n/IO (io), W20 DIFFIO_RX_R4p/IO (io), W21 nPERSTL0/DIFFIO_RX_R6p/IO (io), W22 nPERSTL1/DIFFIO_RX_R6n/IO (io), W23 VCCIO5A, W24 DIFFIO_RX_R13n/IO (io), W25 DIFFIO_RX_R17p/IO (io), Y21 DIFFIO_RX_R4n/IO (io), Y23 DIFFIO_RX_R11p/IO (io), Y24 DIFFIO_RX_R11n/IO (io), Y26 CLK4p/FPLL_BR_FBp/DIFFIO_RX_R23p/IO (io), Y27 CLK4n/FPLL_BR_FBn/DIFFIO_RX_R23n/IO (io)
part E pins: A3 DIFFIO_TX_T18n/IO (io), A4 DIFFIO_TX_T18p/IO (io), A5 DIFFIO_TX_T16n/IO (io), A6 DIFFIO_TX_T16p/IO (io), A7 VCCIO8A, A8 DIFFIO_TX_T8n/IO (io), A9 DIFFIO_TX_T8p/IO (io), A10 FPLL_TL_CLKOUT1/FPLL_TL_CLKOUTn/DIFFIO_TX_T4n/IO (io), A11 FPLL_TL_FB/FPLL_TL_CLKOUT0/FPLL_TL_CLKOUTp/DIFFIO_TX_T4p/IO (io), A13 DIFFIO_TX_T2n/IO (io), B1 DIFFIO_TX_T26n/IO (io), B2 DIFFIO_TX_T26p/IO (io), B3 DIFFIO_TX_T28n/IO (io), B4 VCCIO8A, B5 DIFFIO_RX_T27n/IO (io), B6 DIFFIO_RX_T27p/IO (io), B7 DIFFIO_TX_T10n/IO (io), B8 DIFFIO_TX_T12n/IO (io), B10 VREFB8AN0, B11 DIFFIO_TX_T6n/IO (io), B12 DIFFIO_RX_T3n/IO (io), B13 DIFFIO_TX_T2p/IO (io), C2 DIFFIO_TX_T30n/IO (io), C3 DIFFIO_TX_T28p/IO (io), C4 DIFFIO_TX_T22n/IO (io), C5 DIFFIO_TX_T20n/IO (io), C7 DIFFIO_TX_T10p/IO (io), C8 DIFFIO_TX_T12p/IO (io), C9 DIFFIO_TX_T14n/IO (io), C10 DIFFIO_TX_T14p/IO (io), C11 VCCIO8A, C12 DIFFIO_TX_T6p/IO (io), C13 DIFFIO_RX_T3p/IO (io), D1 DIFFIO_TX_T36n/IO (io), D2 DIFFIO_TX_T30p/IO (io), D4 DIFFIO_TX_T32n/IO (io), D5 DIFFIO_TX_T22p/IO (io), D6 DIFFIO_TX_T20p/IO (io), D7 DIFFIO_TX_T24n/IO (io), D8 VCCIO8A, D9 DIFFIO_RX_T11n/IO (io), D10 DIFFIO_RX_T7n/IO (io), D11 DIFFIO_RX_T7p/IO (io), D12 DIFFIO_RX_T19n/IO (io), E1 DIFFIO_TX_T36p/IO (io), E2 DIFFIO_TX_T34n/IO (io), E3 DIFFIO_TX_T34p/IO (io), E4 DIFFIO_TX_T32p/IO (io), E5 VCCIO8A, E6 DIFFIO_TX_T38n/IO (io), E7 DIFFIO_TX_T38p/IO (io), E8 DIFFIO_TX_T24p/IO (io), E9 DIFFIO_RX_T11p/IO (io), E11 DIFFIO_RX_T23n/IO (io), E12 DIFFIO_RX_T19p/IO (io), E13 DIFFIO_RX_T15n/IO (io), F6 DIFFIO_TX_T40n/IO (io), F8 DIFFIO_RX_T39n/IO (io), F9 DIFFIO_RX_T39p/IO (io), F10 DIFFIO_RX_T35n/IO (io), F11 DIFFIO_RX_T23p/IO (io), F12 VCCIO8A, F13 DIFFIO_RX_T15p/IO (io), F14 DIFFIO_RX_T5n/IO (io), F15 DIFFIO_RX_T5p/IO (io), G7 DIFFIO_TX_T40p/IO (io), G8 DIFFIO_RX_T17n/IO (io), G9 VCCIO8A, G10 DIFFIO_RX_T35p/IO (io), G11 DIFFIO_RX_T31n/IO (io), G12 DIFFIO_RX_T31p/IO (io), G13 DIFFIO_RX_T13n/IO (io), G14 VCCIO8A, G15 CLK7n/DIFFIO_RX_T1n/IO (io), H6 VCCIO8A, H7 DIFFIO_RX_T25n/IO (io), H8 DIFFIO_RX_T17p/IO (io), H12 DIFFIO_RX_T21n/IO (io), H13 DIFFIO_RX_T21p/IO (io), H14 DIFFIO_RX_T13p/IO (io), H15 CLK7p/DIFFIO_RX_T1p/IO (io), J7 DIFFIO_RX_T25p/IO (io), J9 DIFFIO_RX_T37n/IO (io), J10 DIFFIO_RX_T37p/IO (io), J12 DIFFIO_RX_T29n/IO (io), J13 VCCIO8A, J14 CLK6n/FPLL_TL_FBn/DIFFIO_RX_T9n/IO (io), K7 DIFFIO_RX_T33p/IO (io), K8 DIFFIO_RX_T33n/IO (io), K11 VCCPD8A, K12 DIFFIO_RX_T29p/IO (io), K13 VCCPD8A, K14 CLK6p/FPLL_TL_FBp/DIFFIO_RX_T9p/IO (io), L10 VCCPD8A, L12 VCCPD8A, L14 VCCPD8A
part F pins: B30 HPS_A_12 (out), C28 HPS_WE# (out), C29 HPS_A_13 (out), C30 HPS_A_11 (out), D27 HPS_RZQ_0 (in), D28 VCCIO6A_HPS, D29 HPS_A_10 (out), D30 HPS_RAS# (out), E27 HPS_CAS# (out), E28 HPS_A_7 (out), E29 HPS_BA_0 (out), F26 HPS_A_0 (out), F28 HPS_A_2 (out), F29 HPS_A_6 (out), F30 HPS_A_3 (out), G25 HPS_A_15 (out), G26 HPS_A_9 (out), G27 VREFB6AN0_HPS, G28 HPS_DQ_3 (io), G29 VCCIO6A_HPS, G30 HPS_A_1 (out), H24 HPS_CS#_0 (out), H25 HPS_A_14 (out), H26 VCCIO6A_HPS, H27 HPS_A_8 (out), H28 HPS_ODT_0 (out), H29 HPS_ODT_1 (out), H30 HPS_DQ_2 (io), J23 HPS_BA_2 (out), J24 HPS_BA_1 (out), J25 HPS_A_4 (out), J26 HPS_GPI1 (in), J27 HPS_A_5 (out), J29 HPS_DQ_7 (io), J30 HPS_DQ_6 (io), K21 HPS_CS#_1 (out), K22 HPS_DQ_1 (io), K23 HPS_DQ_0 (io), K24 VCCIO6A_HPS, K26 HPS_DQ_8 (io), K27 HPS_DQ_11 (io), K28 HPS_DM_0 (out), K29 HPS_DQ_10 (io), K30 VCCIO6A_HPS, L23 HPS_CK# (out), L24 HPS_DQ_5 (io), L25 HPS_DQ_4 (io), L26 HPS_DQ_9 (io), L27 VCCIO6A_HPS, L28 HPS_DQ_14 (io), L29 HPS_CKE_0 (out), L30 HPS_CKE_1 (out), M19 HPS_DQS#_0 (io), M21 VCCPD6A6B_HPS, M22 HPS_GPI3 (in), M23 HPS_CK (out), M24 VCCIO6A_HPS, M25 HPS_GPI0 (in), M26 HPS_DQ_12 (io), M27 HPS_DQ_13 (io), M28 HPS_DM_1 (out), M30 HPS_DQ_15 (io), N18 HPS_DQS_0 (io), N21 VCCIO6A_HPS, N22 VCCPD6A6B_HPS, N23 HPS_GPI2 (in), N24 HPS_DQS#_1 (io), N25 HPS_DQS_1 (io), N27 HPS_DQ_22 (io), N28 HPS_DQ_19 (io), N29 HPS_DQ_18 (io), N30 HPS_GPI4 (in), P21 VCCPD6A6B_HPS, P22 HPS_GPI6 (in), P23 VCCIO6B_HPS, P24 HPS_DQ_24 (io), P25 HPS_DQ_25 (io), P26 HPS_DQ_20 (io), P27 HPS_DQ_21 (io), P28 VCCIO6B_HPS, P29 HPS_GPI5 (in), P30 HPS_RESET# (out), R18 HPS_DQS#_2 (io), R19 HPS_DQS_2 (io), R20 VCCPD6A6B_HPS, R21 HPS_DQS#_3 (io), R22 HPS_DQS_3 (io), R23 VCCPD6A6B_HPS, R24 HPS_DQ_33 (io), R25 VCCIO6B_HPS, R26 HPS_DQ_29 (io), R27 HPS_DQ_28 (io), R28 HPS_DM_2 (out), R29 HPS_DQ_23 (io), T21 HPS_GPI10 (in), T22 VCCIO6B_HPS, T23 HPS_DQS#_4 (io), T24 HPS_DQS_4 (io), T25 HPS_DQ_36 (io), T26 HPS_DQ_17 (io), T28 HPS_DQ_27 (io), T29 HPS_DQ_26 (io), T30 HPS_GPI8 (in), U19 VCCIO6B_HPS, U20 HPS_GPI11 (in), U25 HPS_DQ_37 (io), U26 HPS_DQ_16 (io), U27 HPS_DQ_34 (io), U28 HPS_GPI9 (in), U30 VREFB6BN0_HPS, V20 HPS_GPI7 (in), V26 VCCIO6B_HPS, V27 HPS_DQ_38 (io), V28 HPS_DQ_35 (io), V29 HPS_GPI12 (in), V30 HPS_DQ_30 (io), W26 HPS_DQ_32 (io), W27 HPS_DM_4 (out), W29 HPS_DQ_31 (io), W30 HPS_DM_3 (out), Y28 HPS_GPI13 (in), Y29 HPS_DQ_39 (io)
part G pins: A14 USB1_NXT/HPS_GPIO13 (in), A15 USB1_D4/HPS_GPIO5 (io), A23 SPIM0_CLK/HPS_GPIO57 (out), A24 HPS_GPIO53 (io), A25 TRACE_D2/HPS_GPIO51 (io), A28 HPS_TRST_B (in), A29 HPS_TMS (in), B15 *USB1_RST_B/HPS_GPIO9 (io), B22 SPIM0_SS1/HPS_GPIO61 (out), B23 SPIM0_MISO/HPS_GPIO59 (in), B25 TRACE_D0/HPS_GPIO49 (io), B26 TRACE_CLK/HPS_GPIO48 (io), B27 HPS_TDI (in), B28 HPS_TDO (out), C14 USB1_D5/HPS_GPIO6 (io), C15 USB1_STP/HPS_GPIO11 (out), C22 SPIM0_MOSI/HPS_GPIO58 (out), C23 I2C0_SDA/HPS_GPIO63 (io), C24 HPS_GPIO55 (io), C25 TRACE_D1/HPS_GPIO50 (io), C27 HPS_nRST (io), D14 USB1_D3/HPS_GPIO4 (io), D15 USB1_D6/HPS_GPIO7 (io), D16 USB1_D2/HPS_GPIO3 (io), D22 I2C0_SCL/HPS_GPIO64 (io), D24 **CLKSEL0/UART0_TX/HPS_GPIO66 (out), D25 HPS_CLK1 (in), E14 USB1_DIR/HPS_GPIO12 (in), E15 VCCIO7D_HPS, E16 USB1_D0/HPS_GPIO1 (io), E23 HPS_GPIO56 (io), E24 UART0_RX/HPS_GPIO65 (in), F16 HPS_GPIO0 (io), F22 VCCIO7A_HPS, F23 HPS_nPOR (in), F24 HPS_PORSEL (in), F25 HPS_CLK2 (in), G16 USB1_D1/HPS_GPIO2 (io), G21 HPS_GPIO54 (io), G22 **CLKSEL1/HPS_GPIO62 (io), G23 VCCRSTCLK_HPS, H16 VCCIO7D_HPS, H20 **BOOTSEL0/SPIM0_SS0/HPS_GPIO60 (out), H21 VCCIO7A_HPS, H22 HPS_TCK (in), H23 TRACE_D3/HPS_GPIO52 (io), J20 VCCRSTCLK_HPS, K16 VCCPD7D_HPS, K19 VCCPD7A_HPS, M17 USB1_D7/HPS_GPIO8 (io), N16 USB1_CLK/HPS_GPIO10 (in)
part H pins: A16 SDMMC_CCLK_OUT/HPS_GPIO45 (out), A18 **BOOTSEL1/QSPI_SS0/HPS_GPIO33 (out), A19 QSPI_IO2/HPS_GPIO31 (io), A20 RGMII1_TX_CTL/HPS_GPIO23 (out), A21 RGMII1_RXD0/HPS_GPIO19 (in), B16 SDMMC_D3/HPS_GPIO47 (io), B17 HPS_GPIO37 (io), B18 RGMII1_RXD2/HPS_GPIO26 (in), B20 RGMII1_RXD1/HPS_GPIO25 (in), B21 RGMII1_MDC/HPS_GPIO21 (out), C17 SDMMC_D1/HPS_GPIO39 (io), C18 SDMMC_D5/HPS_GPIO41 (io), C19 *RGMII1_INTRQ_B/HPS_GPIO35 (io), C20 QSPI_IO0/HPS_GPIO29 (io), D17 SDMMC_D2/HPS_GPIO46 (io), D18 VCCIO7C_HPS, D19 QSPI_CLK/HPS_GPIO34 (out), D20 **BOOTSEL2/*RGMII1_RST_B/HPS_GPIO28 (io), D21 RGMII1_RXD3/HPS_GPIO27 (in), E17 *SDMMC_RST_B/HPS_GPIO44 (io), E18 SDMMC_D7/HPS_GPIO43 (io), E19 QSPI_IO3/HPS_GPIO32 (io), E20 VCCIO7B_HPS, E21 RGMII1_MDIO/HPS_GPIO20 (io), E22 VREFB7A7B7C7DN0_HPS, F18 SDMMC_CMD/HPS_GPIO36 (io), F19 RGMII1_TXD3/HPS_GPIO18 (out), F20 RGMII1_TXD0/HPS_GPIO15 (out), F21 RGMII1_TXD2/HPS_GPIO17 (out), G17 SDMMC_D6/HPS_GPIO42 (io), G18 SDMMC_D0/HPS_GPIO38 (io), G19 VCCIO7B_HPS, G20 RGMII1_RX_CLK/HPS_GPIO24 (in), H17 SDMMC_D4/HPS_GPIO40 (io), H18 QSPI_IO1/HPS_GPIO30 (io), H19 RGMII1_TX_CLK/HPS_GPIO14 (out), J17 VCCPD7C_HPS, J19 RGMII1_TXD1/HPS_GPIO16 (out), K17 RGMII1_RX_CTL/HPS_GPIO22 (in), K18 VCCPD7B_HPS
part I pins: A2 GND, A12 GND, A17 GND, A22 GND, A26 GND, A27 GND, AA3 GND, AA4 GND, AA6 GND, AA7 DNU, AA8 VCCA_FPLL, AA9 GND, AA11 GND, AA22 GND, AA23 VCCPGM, AB1 GND, AB2 GND, AB5 GND, AB7 GND, AB10 VCCPGM, AB11 VCC_AUX, AB16 VCC_AUX, AB19 GND, AB29 GND, AC3 GND, AC4 GND, AC6 GND, AC8 GND, AC16 GND, AC26 GND, AD1 GND, AD2 GND, AD5 GND, AD15 DNU, AD22 VCC_AUX, AD23 GND, AE3 GND, AE4 GND, AE10 GND, AE20 GND, AF1 GND, AF2 GND, AF3 GND, AF12 GND, AF17 GND, AF27 GND, AG9 GND, AG14 GND, AG24 GND, AH1 GND, AH6 GND, AH11 GND, AH21 GND, AJ3 GND, AJ18 GND, AJ28 GND, AJ30 GND, AK5 GND, AK15 GND, AK25 GND, B9 GND, B14 GND, B19 GND, B24 GND, B29 GND, C1 GND, C6 GND, C16 GND, C21 GND, C26 GND, D3 GND, D13 GND, D23 GND, D26 GND, E10 GND, E25 GND, E26 DNU, E30 GND, F1 DNU, F2 GND, F3 CONF_DONE (io), F4 nSTATUS (io), F5 GND, F7 GND, F17 GND, F27 GND, G2 DNU, G3 GND, G4 GND, G5 nCE (in), G6 MSEL2 (in), G24 GND, H1 GND, H2 GND, H5 GND, H9 VCCBAT, H10 VCC_AUX, H11 GND, J3 GND, J4 GND, J5 nCONFIG (in), J6 GND, J8 GND, J11 VCCPGM, J15 DNU, J16 VCC_AUX, J18 GND, J21 VCC_AUX_SHARED, J22 GND, J28 GND, K1 GND, K2 GND, K5 GND, K6 MSEL1 (in), K9 VCCA_FPLL, K10 GND, K15 GND, K20 GND, K25 GND, L3 GND, L4 GND, L6 GND, L7 MSEL3 (in), L8 MSEL0 (in), L9 MSEL4 (in), L11 GND, L13 GND, L15 GND, L16 VCC_HPS, L17 GND, L18 VCC_HPS, L19 GND, L20 VCC_HPS, L21 VCCPLL_HPS, L22 GND, M1 GND, M2 GND, M5 GND, M7 GND, M8 GND, M9 VCC, M10 GND, M11 VCC, M12 GND, M13 VCC, M14 GND, M15 VCC_HPS, M16 GND, M18 GND, M20 GND, M29 GND, N3 GND, N4 GND, N6 GND, N7 VCCA_FPLL, N8 GND, N9 GND, N10 VCC, N11 GND, N12 VCC, N13 GND, N14 VCC, N15 GND, N17 GND, N19 GND, N20 VCC_HPS, N26 GND, P1 GND, P2 GND, P5 GND, P7 GND, P10 GND, P11 VCC, P12 GND, P13 VCC, P14 GND, P15 VCC_HPS, P16 GND, P17 VCC_HPS, P18 GND, P19 VCC_HPS, P20 GND, R3 GND, R4 GND, R6 GND, R7 VCCA_FPLL, R8 GND, R9 GND, R10 VCC, R11 GND, R12 VCC, R13 GND, R14 VCC, R15 GND, R16 VCC_HPS, R17 GND, R30 GND, T1 GND, T2 GND, T5 GND, T7 GND, T10 GND, T11 VCC, T12 GND, T13 VCC, T14 GND, T15 GND, T16 GND, T17 VCC_HPS, T18 GND, T19 VCC_HPS, T20 GND, T27 GND, U3 GND, U4 GND, U6 GND, U9 GND, U10 VCC, U11 GND, U12 VCC, U13 GND, U14 VCC, U15 GND, U16 VCC_HPS, U17 GND, U18 VCC_HPS, U21 VCC, U22 GND, U24 GND, U29 GND, V1 GND, V2 GND, V5 GND, V7 GND, V8 VCCA_FPLL, V10 GND, V11 VCC, V12 GND, V13 VCC, V14 GND, V15 VCC, V19 GND, V21 GND, W3 GND, W4 GND, W6 GND, W9 GND, W10 VCC, W11 GND, W12 VCC, W13 GND, W14 VCC, W18 GND, W28 GND, Y1 GND, Y2 GND, Y5 GND, Y7 GND, Y8 GND, Y9 VCC, Y10 GND, Y11 VCC, Y12 GND, Y13 VCC, Y14 GND, Y15 GND, Y20 GND, Y22 VCCA_FPLL, Y25 GND, Y30 GND

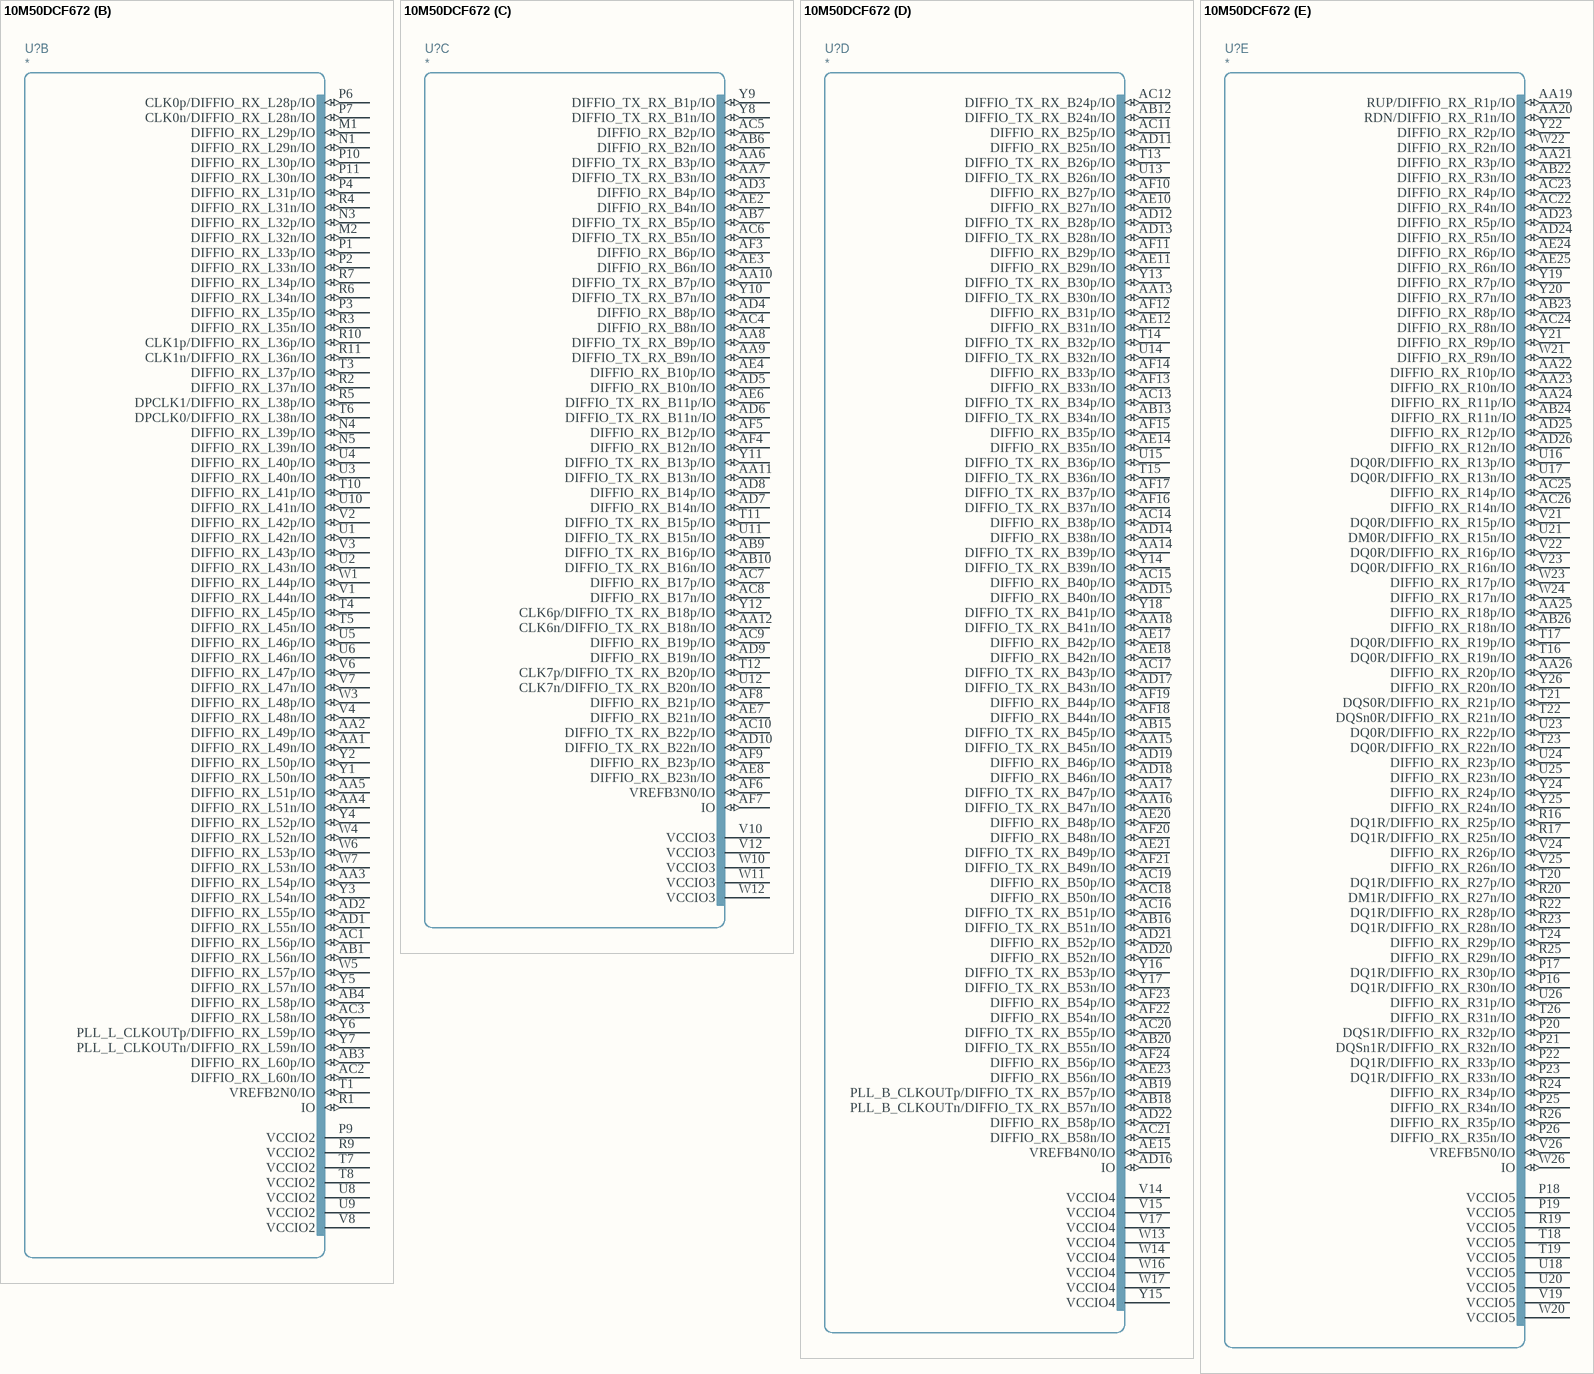
[diagram p4: symbol 10M50DCF672]

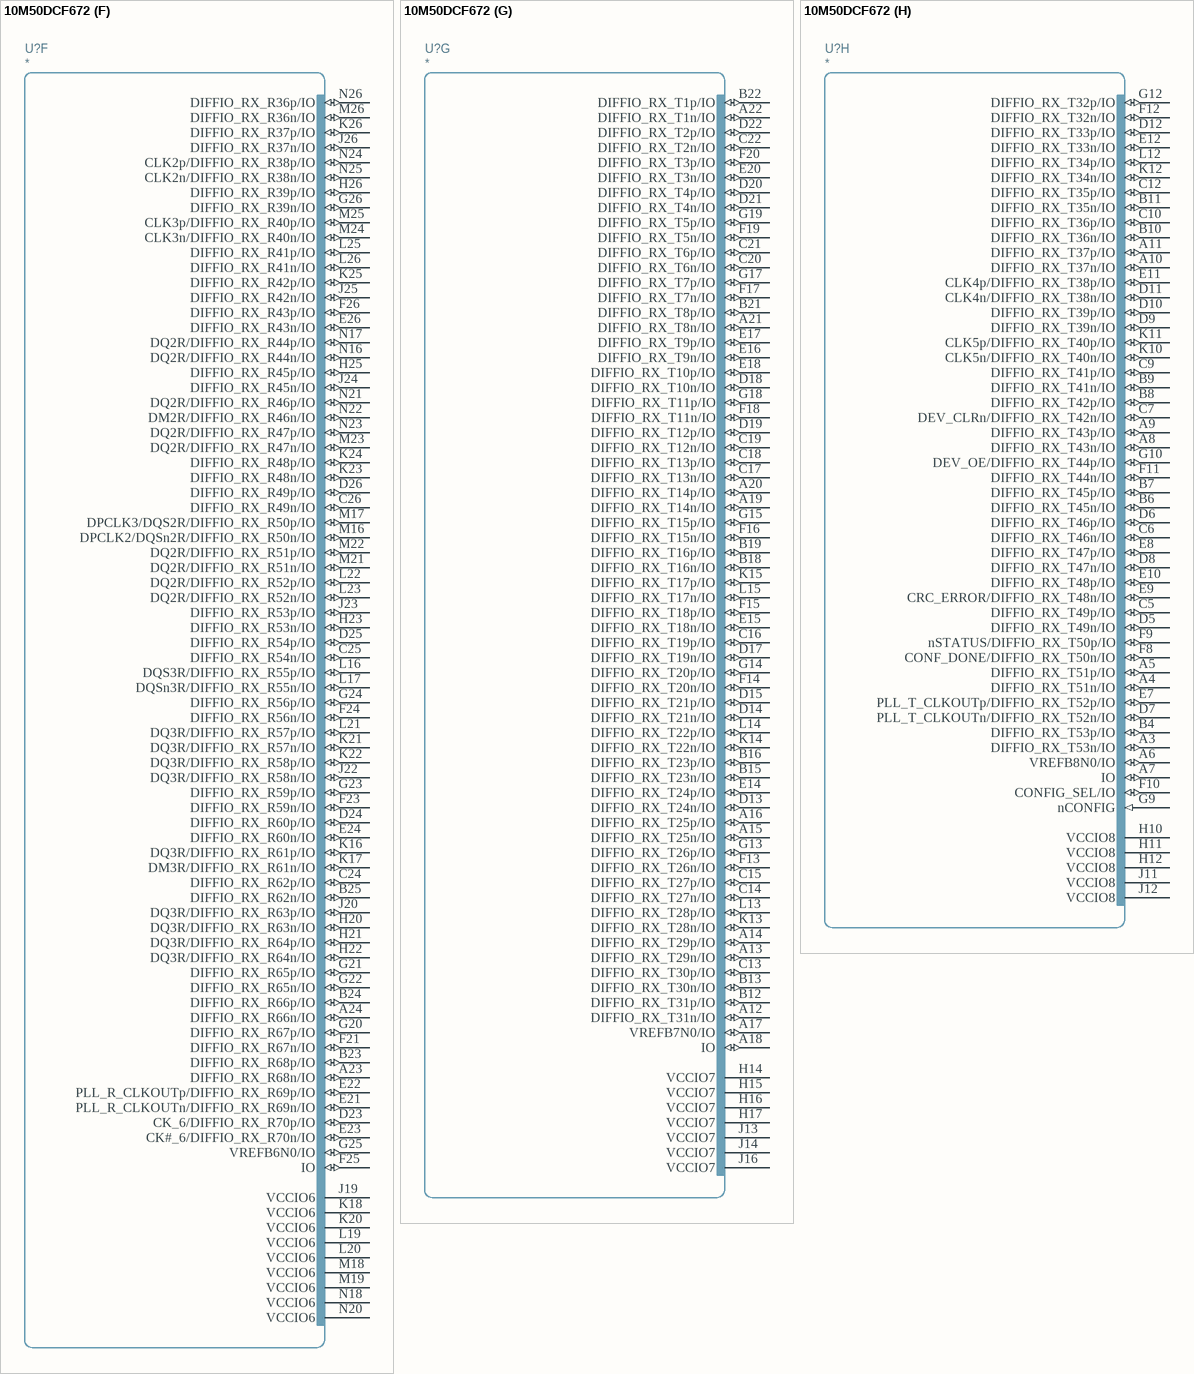
[diagram p5: symbol 10M50DCF672]

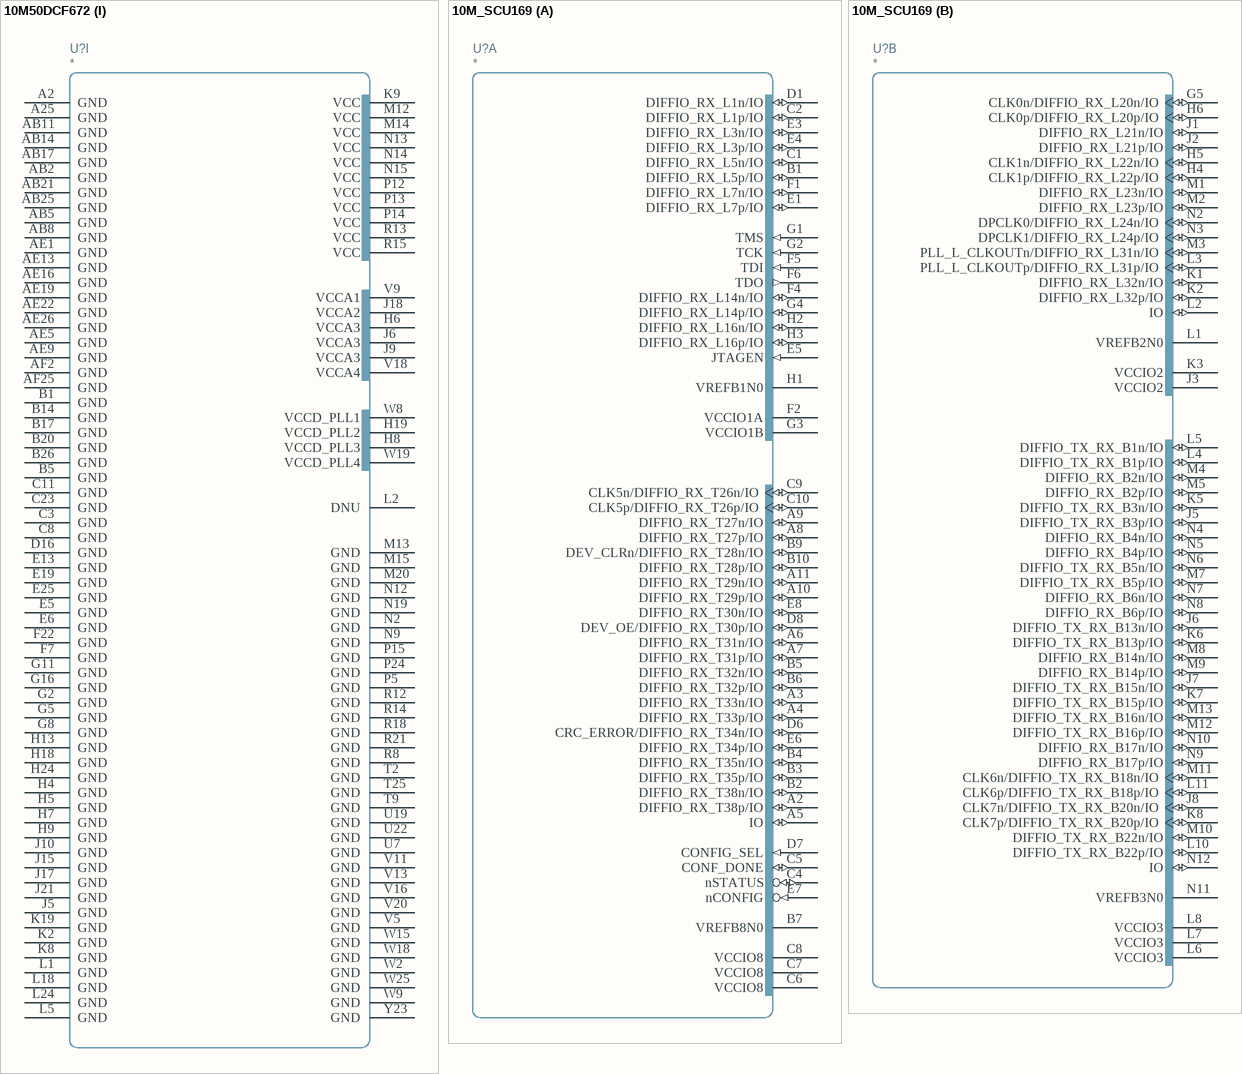
[diagram p6: symbols 10M50DCF672 to 10M_SCU169]

## 10M50DCF672
designator U?
part A pins: B2 DIFFIO_RX_L12p/IO (io), B3 DIFFIO_RX_L12n/IO (io), C1 DIFFIO_RX_L19p/IO (io), C2 TMS/DIFFIO_RX_L17n/IO (io), C4 DIFFIO_RX_L10n/IO (io), D1 IO (io), D2 DIFFIO_RX_L19n/IO (io), D3 TCK/DIFFIO_RX_L17p/IO (io), D4 DIFFIO_RX_L10p/IO (io), E1 VREFB1N0/IO (io), E2 DIFFIO_RX_L22n/IO (io), E3 DIFFIO_RX_L11n/IO (io), E4 DIFFIO_RX_L8p/IO (io), F1 DIFFIO_RX_L25p/IO (io), F2 DIFFIO_RX_L22p/IO (io), F3 DIFFIO_RX_L11p/IO (io), F4 DIFFIO_RX_L8n/IO (io), F5 DIFFIO_RX_L6p/IO (io), F6 DIFFIO_RX_L6n/IO (io), G1 DIFFIO_RX_L25n/IO (io), G3 DIFFIO_RX_L5p/IO (io), G4 DIFFIO_RX_L5n/IO (io), G6 DIFFIO_RX_L4p/IO (io), G7 DIFFIO_RX_L4n/IO (io), H1 DIFFIO_RX_L21p/IO (io), H2 DIFFIO_RX_L21n/IO (io), H3 DIFFIO_RX_L14n/IO (io), J1 DIFFIO_RX_L23n/IO (io), J2 DIFFIO_RX_L27n/IO (io), J3 DIFFIO_RX_L27p/IO (io), J4 DIFFIO_RX_L14p/IO (io), J7 DIFFIO_RX_L3n/IO (io), J8 DIFFIO_RX_L3p/IO (io), K1 DIFFIO_RX_L23p/IO (io), K3 DIFFIO_RX_L16n/IO (io), K4 DIFFIO_RX_L7p/IO (io), K5 DIFFIO_RX_L7n/IO (io), K6 DIFFIO_RX_L2n/IO (io), K7 DIFFIO_RX_L1n/IO (io), L3 DIFFIO_RX_L16p/IO (io), L4 DIFFIO_RX_L9p/IO (io), L6 DIFFIO_RX_L2p/IO (io), L7 DIFFIO_RX_L1p/IO (io), L8 VCCIO1A, L9 VCCIO1A, L10 DIFFIO_RX_L15n/IO (io), L11 JTAGEN/DIFFIO_RX_L15p/IO (io), M3 DIFFIO_RX_L24p/IO (io), M4 DIFFIO_RX_L24n/IO (io), M5 DIFFIO_RX_L9n/IO (io), M6 DIFFIO_RX_L13n/IO (io), M7 DIFFIO_RX_L13p/IO (io), M8 VCCIO1B, M9 VCCIO1B, M10 DIFFIO_RX_L20n/IO (io), M11 DIFFIO_RX_L20p/IO (io), N6 TDO/DIFFIO_RX_L18p/IO (io), N7 TDI/DIFFIO_RX_L18n/IO (io), N8 VCCIO1B, N10 DIFFIO_RX_L26n/IO (io), N11 DIFFIO_RX_L26p/IO (io), P8 VCCIO1B
part B pins: AA1 DIFFIO_RX_L49n/IO (io), AA2 DIFFIO_RX_L49p/IO (io), AA3 DIFFIO_RX_L54p/IO (io), AA4 DIFFIO_RX_L51n/IO (io), AA5 DIFFIO_RX_L51p/IO (io), AB1 DIFFIO_RX_L56n/IO (io), AB3 DIFFIO_RX_L60p/IO (io), AB4 DIFFIO_RX_L58p/IO (io), AC1 DIFFIO_RX_L56p/IO (io), AC2 DIFFIO_RX_L60n/IO (io), AC3 DIFFIO_RX_L58n/IO (io), AD1 DIFFIO_RX_L55n/IO (io), AD2 DIFFIO_RX_L55p/IO (io), M1 DIFFIO_RX_L29p/IO (io), M2 DIFFIO_RX_L32n/IO (io), N1 DIFFIO_RX_L29n/IO (io), N3 DIFFIO_RX_L32p/IO (io), N4 DIFFIO_RX_L39p/IO (io), N5 DIFFIO_RX_L39n/IO (io), P1 DIFFIO_RX_L33p/IO (io), P2 DIFFIO_RX_L33n/IO (io), P3 DIFFIO_RX_L35p/IO (io), P4 DIFFIO_RX_L31p/IO (io), P6 CLK0p/DIFFIO_RX_L28p/IO (io), P7 CLK0n/DIFFIO_RX_L28n/IO (io), P9 VCCIO2, P10 DIFFIO_RX_L30p/IO (io), P11 DIFFIO_RX_L30n/IO (io), R1 IO (io), R2 DIFFIO_RX_L37n/IO (io), R3 DIFFIO_RX_L35n/IO (io), R4 DIFFIO_RX_L31n/IO (io), R5 DPCLK1/DIFFIO_RX_L38p/IO (io), R6 DIFFIO_RX_L34n/IO (io), R7 DIFFIO_RX_L34p/IO (io), R9 VCCIO2, R10 CLK1p/DIFFIO_RX_L36p/IO (io), R11 CLK1n/DIFFIO_RX_L36n/IO (io), T1 VREFB2N0/IO (io), T3 DIFFIO_RX_L37p/IO (io), T4 DIFFIO_RX_L45p/IO (io), T5 DIFFIO_RX_L45n/IO (io), T6 DPCLK0/DIFFIO_RX_L38n/IO (io), T7 VCCIO2, T8 VCCIO2, T10 DIFFIO_RX_L41p/IO (io), U1 DIFFIO_RX_L42n/IO (io), U2 DIFFIO_RX_L43n/IO (io), U3 DIFFIO_RX_L40n/IO (io), U4 DIFFIO_RX_L40p/IO (io), U5 DIFFIO_RX_L46p/IO (io), U6 DIFFIO_RX_L46n/IO (io), U8 VCCIO2, U9 VCCIO2, U10 DIFFIO_RX_L41n/IO (io), V1 DIFFIO_RX_L44n/IO (io), V2 DIFFIO_RX_L42p/IO (io), V3 DIFFIO_RX_L43p/IO (io), V4 DIFFIO_RX_L48n/IO (io), V6 DIFFIO_RX_L47p/IO (io), V7 DIFFIO_RX_L47n/IO (io), V8 VCCIO2, W1 DIFFIO_RX_L44p/IO (io), W3 DIFFIO_RX_L48p/IO (io), W4 DIFFIO_RX_L52n/IO (io), W5 DIFFIO_RX_L57p/IO (io), W6 DIFFIO_RX_L53p/IO (io), W7 DIFFIO_RX_L53n/IO (io), Y1 DIFFIO_RX_L50n/IO (io), Y2 DIFFIO_RX_L50p/IO (io), Y3 DIFFIO_RX_L54n/IO (io), Y4 DIFFIO_RX_L52p/IO (io), Y5 DIFFIO_RX_L57n/IO (io), Y6 PLL_L_CLKOUTp/DIFFIO_RX_L59p/IO (io), Y7 PLL_L_CLKOUTn/DIFFIO_RX_L59n/IO (io)
part C pins: AA6 DIFFIO_TX_RX_B3p/IO (io), AA7 DIFFIO_TX_RX_B3n/IO (io), AA8 DIFFIO_TX_RX_B9p/IO (io), AA9 DIFFIO_TX_RX_B9n/IO (io), AA10 DIFFIO_TX_RX_B7p/IO (io), AA11 DIFFIO_TX_RX_B13n/IO (io), AA12 CLK6n/DIFFIO_TX_RX_B18n/IO (io), AB6 DIFFIO_RX_B2n/IO (io), AB7 DIFFIO_TX_RX_B5p/IO (io), AB9 DIFFIO_TX_RX_B16p/IO (io), AB10 DIFFIO_TX_RX_B16n/IO (io), AC4 DIFFIO_RX_B8n/IO (io), AC5 DIFFIO_RX_B2p/IO (io), AC6 DIFFIO_TX_RX_B5n/IO (io), AC7 DIFFIO_RX_B17p/IO (io), AC8 DIFFIO_RX_B17n/IO (io), AC9 DIFFIO_RX_B19p/IO (io), AC10 DIFFIO_TX_RX_B22p/IO (io), AD3 DIFFIO_RX_B4p/IO (io), AD4 DIFFIO_RX_B8p/IO (io), AD5 DIFFIO_RX_B10n/IO (io), AD6 DIFFIO_TX_RX_B11n/IO (io), AD7 DIFFIO_RX_B14n/IO (io), AD8 DIFFIO_RX_B14p/IO (io), AD9 DIFFIO_RX_B19n/IO (io), AD10 DIFFIO_TX_RX_B22n/IO (io), AE2 DIFFIO_RX_B4n/IO (io), AE3 DIFFIO_RX_B6n/IO (io), AE4 DIFFIO_RX_B10p/IO (io), AE6 DIFFIO_TX_RX_B11p/IO (io), AE7 DIFFIO_RX_B21n/IO (io), AE8 DIFFIO_RX_B23n/IO (io), AF3 DIFFIO_RX_B6p/IO (io), AF4 DIFFIO_RX_B12n/IO (io), AF5 DIFFIO_RX_B12p/IO (io), AF6 VREFB3N0/IO (io), AF7 IO (io), AF8 DIFFIO_RX_B21p/IO (io), AF9 DIFFIO_RX_B23p/IO (io), T11 DIFFIO_TX_RX_B15p/IO (io), T12 CLK7p/DIFFIO_TX_RX_B20p/IO (io), U11 DIFFIO_TX_RX_B15n/IO (io), U12 CLK7n/DIFFIO_TX_RX_B20n/IO (io), V10 VCCIO3, V12 VCCIO3, W10 VCCIO3, W11 VCCIO3, W12 VCCIO3, Y8 DIFFIO_TX_RX_B1n/IO (io), Y9 DIFFIO_TX_RX_B1p/IO (io), Y10 DIFFIO_TX_RX_B7n/IO (io), Y11 DIFFIO_TX_RX_B13p/IO (io), Y12 CLK6p/DIFFIO_TX_RX_B18p/IO (io)
part D pins: AA13 DIFFIO_TX_RX_B30n/IO (io), AA14 DIFFIO_TX_RX_B39p/IO (io), AA15 DIFFIO_TX_RX_B45n/IO (io), AA16 DIFFIO_TX_RX_B47n/IO (io), AA17 DIFFIO_TX_RX_B47p/IO (io), AA18 DIFFIO_TX_RX_B41n/IO (io), AB12 DIFFIO_TX_RX_B24n/IO (io), AB13 DIFFIO_TX_RX_B34n/IO (io), AB15 DIFFIO_TX_RX_B45p/IO (io), AB16 DIFFIO_TX_RX_B51n/IO (io), AB18 PLL_B_CLKOUTn/DIFFIO_TX_RX_B57n/IO (io), AB19 PLL_B_CLKOUTp/DIFFIO_TX_RX_B57p/IO (io), AB20 DIFFIO_TX_RX_B55n/IO (io), AC11 DIFFIO_RX_B25p/IO (io), AC12 DIFFIO_TX_RX_B24p/IO (io), AC13 DIFFIO_TX_RX_B34p/IO (io), AC14 DIFFIO_RX_B38p/IO (io), AC15 DIFFIO_RX_B40p/IO (io), AC16 DIFFIO_TX_RX_B51p/IO (io), AC17 DIFFIO_TX_RX_B43p/IO (io), AC18 DIFFIO_RX_B50n/IO (io), AC19 DIFFIO_RX_B50p/IO (io), AC20 DIFFIO_TX_RX_B55p/IO (io), AC21 DIFFIO_RX_B58n/IO (io), AD11 DIFFIO_RX_B25n/IO (io), AD12 DIFFIO_TX_RX_B28p/IO (io), AD13 DIFFIO_TX_RX_B28n/IO (io), AD14 DIFFIO_RX_B38n/IO (io), AD15 DIFFIO_RX_B40n/IO (io), AD16 IO (io), AD17 DIFFIO_TX_RX_B43n/IO (io), AD18 DIFFIO_RX_B46n/IO (io), AD19 DIFFIO_RX_B46p/IO (io), AD20 DIFFIO_RX_B52n/IO (io), AD21 DIFFIO_RX_B52p/IO (io), AD22 DIFFIO_RX_B58p/IO (io), AE10 DIFFIO_RX_B27n/IO (io), AE11 DIFFIO_RX_B29n/IO (io), AE12 DIFFIO_RX_B31n/IO (io), AE14 DIFFIO_RX_B35n/IO (io), AE15 VREFB4N0/IO (io), AE17 DIFFIO_RX_B42p/IO (io), AE18 DIFFIO_RX_B42n/IO (io), AE20 DIFFIO_RX_B48p/IO (io), AE21 DIFFIO_TX_RX_B49p/IO (io), AE23 DIFFIO_RX_B56n/IO (io), AF10 DIFFIO_RX_B27p/IO (io), AF11 DIFFIO_RX_B29p/IO (io), AF12 DIFFIO_RX_B31p/IO (io), AF13 DIFFIO_RX_B33n/IO (io), AF14 DIFFIO_RX_B33p/IO (io), AF15 DIFFIO_RX_B35p/IO (io), AF16 DIFFIO_TX_RX_B37n/IO (io), AF17 DIFFIO_TX_RX_B37p/IO (io), AF18 DIFFIO_RX_B44n/IO (io), AF19 DIFFIO_RX_B44p/IO (io), AF20 DIFFIO_RX_B48n/IO (io), AF21 DIFFIO_TX_RX_B49n/IO (io), AF22 DIFFIO_RX_B54n/IO (io), AF23 DIFFIO_RX_B54p/IO (io), AF24 DIFFIO_RX_B56p/IO (io), T13 DIFFIO_TX_RX_B26p/IO (io), T14 DIFFIO_TX_RX_B32p/IO (io), T15 DIFFIO_TX_RX_B36n/IO (io), U13 DIFFIO_TX_RX_B26n/IO (io), U14 DIFFIO_TX_RX_B32n/IO (io), U15 DIFFIO_TX_RX_B36p/IO (io), V14 VCCIO4, V15 VCCIO4, V17 VCCIO4, W13 VCCIO4, W14 VCCIO4, W16 VCCIO4, W17 VCCIO4, Y13 DIFFIO_TX_RX_B30p/IO (io), Y14 DIFFIO_TX_RX_B39n/IO (io), Y15 VCCIO4, Y16 DIFFIO_TX_RX_B53p/IO (io), Y17 DIFFIO_TX_RX_B53n/IO (io), Y18 DIFFIO_TX_RX_B41p/IO (io)
part E pins: AA19 RUP/DIFFIO_RX_R1p/IO (io), AA20 RDN/DIFFIO_RX_R1n/IO (io), AA21 DIFFIO_RX_R3p/IO (io), AA22 DIFFIO_RX_R10p/IO (io), AA23 DIFFIO_RX_R10n/IO (io), AA24 DIFFIO_RX_R11p/IO (io), AA25 DIFFIO_RX_R18p/IO (io), AA26 DIFFIO_RX_R20p/IO (io), AB22 DIFFIO_RX_R3n/IO (io), AB23 DIFFIO_RX_R8p/IO (io), AB24 DIFFIO_RX_R11n/IO (io), AB26 DIFFIO_RX_R18n/IO (io), AC22 DIFFIO_RX_R4n/IO (io), AC23 DIFFIO_RX_R4p/IO (io), AC24 DIFFIO_RX_R8n/IO (io), AC25 DIFFIO_RX_R14p/IO (io), AC26 DIFFIO_RX_R14n/IO (io), AD23 DIFFIO_RX_R5p/IO (io), AD24 DIFFIO_RX_R5n/IO (io), AD25 DIFFIO_RX_R12p/IO (io), AD26 DIFFIO_RX_R12n/IO (io), AE24 DIFFIO_RX_R6p/IO (io), AE25 DIFFIO_RX_R6n/IO (io), P16 DQ1R/DIFFIO_RX_R30n/IO (io), P17 DQ1R/DIFFIO_RX_R30p/IO (io), P18 VCCIO5, P19 VCCIO5, P20 DQS1R/DIFFIO_RX_R32p/IO (io), P21 DQSn1R/DIFFIO_RX_R32n/IO (io), P22 DQ1R/DIFFIO_RX_R33p/IO (io), P23 DQ1R/DIFFIO_RX_R33n/IO (io), P25 DIFFIO_RX_R34n/IO (io), P26 DIFFIO_RX_R35n/IO (io), R16 DQ1R/DIFFIO_RX_R25p/IO (io), R17 DQ1R/DIFFIO_RX_R25n/IO (io), R19 VCCIO5, R20 DM1R/DIFFIO_RX_R27n/IO (io), R22 DQ1R/DIFFIO_RX_R28p/IO (io), R23 DQ1R/DIFFIO_RX_R28n/IO (io), R24 DIFFIO_RX_R34p/IO (io), R25 DIFFIO_RX_R29n/IO (io), R26 DIFFIO_RX_R35p/IO (io), T16 DQ0R/DIFFIO_RX_R19n/IO (io), T17 DQ0R/DIFFIO_RX_R19p/IO (io), T18 VCCIO5, T19 VCCIO5, T20 DQ1R/DIFFIO_RX_R27p/IO (io), T21 DQS0R/DIFFIO_RX_R21p/IO (io), T22 DQSn0R/DIFFIO_RX_R21n/IO (io), T23 DQ0R/DIFFIO_RX_R22n/IO (io), T24 DIFFIO_RX_R29p/IO (io), T26 DIFFIO_RX_R31n/IO (io), U16 DQ0R/DIFFIO_RX_R13p/IO (io), U17 DQ0R/DIFFIO_RX_R13n/IO (io), U18 VCCIO5, U20 VCCIO5, U21 DM0R/DIFFIO_RX_R15n/IO (io), U23 DQ0R/DIFFIO_RX_R22p/IO (io), U24 DIFFIO_RX_R23p/IO (io), U25 DIFFIO_RX_R23n/IO (io), U26 DIFFIO_RX_R31p/IO (io), V19 VCCIO5, V21 DQ0R/DIFFIO_RX_R15p/IO (io), V22 DQ0R/DIFFIO_RX_R16p/IO (io), V23 DQ0R/DIFFIO_RX_R16n/IO (io), V24 DIFFIO_RX_R26p/IO (io), V25 DIFFIO_RX_R26n/IO (io), V26 VREFB5N0/IO (io), W20 VCCIO5, W21 DIFFIO_RX_R9n/IO (io), W22 DIFFIO_RX_R2n/IO (io), W23 DIFFIO_RX_R17p/IO (io), W24 DIFFIO_RX_R17n/IO (io), W26 IO (io), Y19 DIFFIO_RX_R7p/IO (io), Y20 DIFFIO_RX_R7n/IO (io), Y21 DIFFIO_RX_R9p/IO (io), Y22 DIFFIO_RX_R2p/IO (io), Y24 DIFFIO_RX_R24p/IO (io), Y25 DIFFIO_RX_R24n/IO (io), Y26 DIFFIO_RX_R20n/IO (io)
part F pins: A23 DIFFIO_RX_R68n/IO (io), A24 DIFFIO_RX_R66n/IO (io), B23 DIFFIO_RX_R68p/IO (io), B24 DIFFIO_RX_R66p/IO (io), B25 DIFFIO_RX_R62n/IO (io), C24 DIFFIO_RX_R62p/IO (io), C25 DIFFIO_RX_R54n/IO (io), C26 DIFFIO_RX_R49n/IO (io), D23 CK_6/DIFFIO_RX_R70p/IO (io), D24 DIFFIO_RX_R60p/IO (io), D25 DIFFIO_RX_R54p/IO (io), D26 DIFFIO_RX_R49p/IO (io), E21 PLL_R_CLKOUTn/DIFFIO_RX_R69n/IO (io), E22 PLL_R_CLKOUTp/DIFFIO_RX_R69p/IO (io), E23 CK#_6/DIFFIO_RX_R70n/IO (io), E24 DIFFIO_RX_R60n/IO (io), E26 DIFFIO_RX_R43n/IO (io), F21 DIFFIO_RX_R67n/IO (io), F23 DIFFIO_RX_R59n/IO (io), F24 DIFFIO_RX_R56n/IO (io), F25 IO (io), F26 DIFFIO_RX_R43p/IO (io), G20 DIFFIO_RX_R67p/IO (io), G21 DIFFIO_RX_R65p/IO (io), G22 DIFFIO_RX_R65n/IO (io), G23 DIFFIO_RX_R59p/IO (io), G24 DIFFIO_RX_R56p/IO (io), G25 VREFB6N0/IO (io), G26 DIFFIO_RX_R39n/IO (io), H20 DQ3R/DIFFIO_RX_R63n/IO (io), H21 DQ3R/DIFFIO_RX_R64p/IO (io), H22 DQ3R/DIFFIO_RX_R64n/IO (io), H23 DIFFIO_RX_R53n/IO (io), H25 DIFFIO_RX_R45p/IO (io), H26 DIFFIO_RX_R39p/IO (io), J19 VCCIO6, J20 DQ3R/DIFFIO_RX_R63p/IO (io), J22 DQ3R/DIFFIO_RX_R58n/IO (io), J23 DIFFIO_RX_R53p/IO (io), J24 DIFFIO_RX_R45n/IO (io), J25 DIFFIO_RX_R42n/IO (io), J26 DIFFIO_RX_R37n/IO (io), K16 DQ3R/DIFFIO_RX_R61p/IO (io), K17 DM3R/DIFFIO_RX_R61n/IO (io), K18 VCCIO6, K20 VCCIO6, K21 DQ3R/DIFFIO_RX_R57n/IO (io), K22 DQ3R/DIFFIO_RX_R58p/IO (io), K23 DIFFIO_RX_R48n/IO (io), K24 DIFFIO_RX_R48p/IO (io), K25 DIFFIO_RX_R42p/IO (io), K26 DIFFIO_RX_R37p/IO (io), L16 DQS3R/DIFFIO_RX_R55p/IO (io), L17 DQSn3R/DIFFIO_RX_R55n/IO (io), L19 VCCIO6, L20 VCCIO6, L21 DQ3R/DIFFIO_RX_R57p/IO (io), L22 DQ2R/DIFFIO_RX_R52p/IO (io), L23 DQ2R/DIFFIO_RX_R52n/IO (io), L25 DIFFIO_RX_R41p/IO (io), L26 DIFFIO_RX_R41n/IO (io), M16 DPCLK2/DQSn2R/DIFFIO_RX_R50n/IO (io), M17 DPCLK3/DQS2R/DIFFIO_RX_R50p/IO (io), M18 VCCIO6, M19 VCCIO6, M21 DQ2R/DIFFIO_RX_R51n/IO (io), M22 DQ2R/DIFFIO_RX_R51p/IO (io), M23 DQ2R/DIFFIO_RX_R47n/IO (io), M24 CLK3n/DIFFIO_RX_R40n/IO (io), M25 CLK3p/DIFFIO_RX_R40p/IO (io), M26 DIFFIO_RX_R36n/IO (io), N16 DQ2R/DIFFIO_RX_R44n/IO (io), N17 DQ2R/DIFFIO_RX_R44p/IO (io), N18 VCCIO6, N20 VCCIO6, N21 DQ2R/DIFFIO_RX_R46p/IO (io), N22 DM2R/DIFFIO_RX_R46n/IO (io), N23 DQ2R/DIFFIO_RX_R47p/IO (io), N24 CLK2p/DIFFIO_RX_R38p/IO (io), N25 CLK2n/DIFFIO_RX_R38n/IO (io), N26 DIFFIO_RX_R36p/IO (io)
part G pins: A12 DIFFIO_RX_T31n/IO (io), A13 DIFFIO_RX_T29n/IO (io), A14 DIFFIO_RX_T29p/IO (io), A15 DIFFIO_RX_T25n/IO (io), A16 DIFFIO_RX_T25p/IO (io), A17 VREFB7N0/IO (io), A18 IO (io), A19 DIFFIO_RX_T14n/IO (io), A20 DIFFIO_RX_T14p/IO (io), A21 DIFFIO_RX_T8n/IO (io), A22 DIFFIO_RX_T1n/IO (io), B12 DIFFIO_RX_T31p/IO (io), B13 DIFFIO_RX_T30n/IO (io), B15 DIFFIO_RX_T23n/IO (io), B16 DIFFIO_RX_T23p/IO (io), B18 DIFFIO_RX_T16n/IO (io), B19 DIFFIO_RX_T16p/IO (io), B21 DIFFIO_RX_T8p/IO (io), B22 DIFFIO_RX_T1p/IO (io), C13 DIFFIO_RX_T30p/IO (io), C14 DIFFIO_RX_T27n/IO (io), C15 DIFFIO_RX_T27p/IO (io), C16 DIFFIO_RX_T19p/IO (io), C17 DIFFIO_RX_T13n/IO (io), C18 DIFFIO_RX_T13p/IO (io), C19 DIFFIO_RX_T12n/IO (io), C20 DIFFIO_RX_T6n/IO (io), C21 DIFFIO_RX_T6p/IO (io), C22 DIFFIO_RX_T2n/IO (io), D13 DIFFIO_RX_T24n/IO (io), D14 DIFFIO_RX_T21n/IO (io), D15 DIFFIO_RX_T21p/IO (io), D17 DIFFIO_RX_T19n/IO (io), D18 DIFFIO_RX_T10n/IO (io), D19 DIFFIO_RX_T12p/IO (io), D20 DIFFIO_RX_T4p/IO (io), D21 DIFFIO_RX_T4n/IO (io), D22 DIFFIO_RX_T2p/IO (io), E14 DIFFIO_RX_T24p/IO (io), E15 DIFFIO_RX_T18n/IO (io), E16 DIFFIO_RX_T9n/IO (io), E17 DIFFIO_RX_T9p/IO (io), E18 DIFFIO_RX_T10p/IO (io), E20 DIFFIO_RX_T3n/IO (io), F13 DIFFIO_RX_T26n/IO (io), F14 DIFFIO_RX_T20n/IO (io), F15 DIFFIO_RX_T18p/IO (io), F16 DIFFIO_RX_T15n/IO (io), F17 DIFFIO_RX_T7n/IO (io), F18 DIFFIO_RX_T11n/IO (io), F19 DIFFIO_RX_T5n/IO (io), F20 DIFFIO_RX_T3p/IO (io), G13 DIFFIO_RX_T26p/IO (io), G14 DIFFIO_RX_T20p/IO (io), G15 DIFFIO_RX_T15p/IO (io), G17 DIFFIO_RX_T7p/IO (io), G18 DIFFIO_RX_T11p/IO (io), G19 DIFFIO_RX_T5p/IO (io), H14 VCCIO7, H15 VCCIO7, H16 VCCIO7, H17 VCCIO7, J13 VCCIO7, J14 VCCIO7, J16 VCCIO7, K13 DIFFIO_RX_T28n/IO (io), K14 DIFFIO_RX_T22n/IO (io), K15 DIFFIO_RX_T17p/IO (io), L13 DIFFIO_RX_T28p/IO (io), L14 DIFFIO_RX_T22p/IO (io), L15 DIFFIO_RX_T17n/IO (io)
part H pins: A3 DIFFIO_RX_T53n/IO (io), A4 DIFFIO_RX_T51n/IO (io), A5 DIFFIO_RX_T51p/IO (io), A6 VREFB8N0/IO (io), A7 IO (io), A8 DIFFIO_RX_T43n/IO (io), A9 DIFFIO_RX_T43p/IO (io), A10 DIFFIO_RX_T37n/IO (io), A11 DIFFIO_RX_T37p/IO (io), B4 DIFFIO_RX_T53p/IO (io), B6 DIFFIO_RX_T45n/IO (io), B7 DIFFIO_RX_T45p/IO (io), B8 DIFFIO_RX_T42p/IO (io), B9 DIFFIO_RX_T41n/IO (io), B10 DIFFIO_RX_T36n/IO (io), B11 DIFFIO_RX_T35n/IO (io), C5 DIFFIO_RX_T49p/IO (io), C6 DIFFIO_RX_T46n/IO (io), C7 DEV_CLRn/DIFFIO_RX_T42n/IO (io), C9 DIFFIO_RX_T41p/IO (io), C10 DIFFIO_RX_T36p/IO (io), C12 DIFFIO_RX_T35p/IO (io), D5 DIFFIO_RX_T49n/IO (io), D6 DIFFIO_RX_T46p/IO (io), D7 PLL_T_CLKOUTn/DIFFIO_RX_T52n/IO (io), D8 DIFFIO_RX_T47n/IO (io), D9 DIFFIO_RX_T39n/IO (io), D10 DIFFIO_RX_T39p/IO (io), D11 CLK4n/DIFFIO_RX_T38n/IO (io), D12 DIFFIO_RX_T33p/IO (io), E7 PLL_T_CLKOUTp/DIFFIO_RX_T52p/IO (io), E8 DIFFIO_RX_T47p/IO (io), E9 CRC_ERROR/DIFFIO_RX_T48n/IO (io), E10 DIFFIO_RX_T48p/IO (io), E11 CLK4p/DIFFIO_RX_T38p/IO (io), E12 DIFFIO_RX_T33n/IO (io), F8 CONF_DONE/DIFFIO_RX_T50n/IO (io), F9 nSTATUS/DIFFIO_RX_T50p/IO (io), F10 CONFIG_SEL/IO (io), F11 DIFFIO_RX_T44n/IO (io), F12 DIFFIO_RX_T32n/IO (io), G9 nCONFIG (in), G10 DEV_OE/DIFFIO_RX_T44p/IO (io), G12 DIFFIO_RX_T32p/IO (io), H10 VCCIO8, H11 VCCIO8, H12 VCCIO8, J11 VCCIO8, J12 VCCIO8, K10 CLK5n/DIFFIO_RX_T40n/IO (io), K11 CLK5p/DIFFIO_RX_T40p/IO (io), K12 DIFFIO_RX_T34n/IO (io), L12 DIFFIO_RX_T34p/IO (io)
part I pins: A2 GND, A25 GND, AB2 GND, AB5 GND, AB8 GND, AB11 GND, AB14 GND, AB17 GND, AB21 GND, AB25 GND, AE1 GND, AE5 GND, AE9 GND, AE13 GND, AE16 GND, AE19 GND, AE22 GND, AE26 GND, AF2 GND, AF25 GND, B1 GND, B5 GND, B14 GND, B17 GND, B20 GND, B26 GND, C3 GND, C8 GND, C11 GND, C23 GND, D16 GND, E5 GND, E6 GND, E13 GND, E19 GND, E25 GND, F7 GND, F22 GND, G2 GND, G5 GND, G8 GND, G11 GND, G16 GND, H4 GND, H5 GND, H6 VCCA3, H7 GND, H8 VCCD_PLL3, H9 GND, H13 GND, H18 GND, H19 VCCD_PLL2, H24 GND, J5 GND, J6 VCCA3, J9 VCCA3, J10 GND, J15 GND, J17 GND, J18 VCCA2, J21 GND, K2 GND, K8 GND, K9 VCC, K19 GND, L1 GND, L2 DNU, L5 GND, L18 GND, L24 GND, M12 VCC, M13 GND, M14 VCC, M15 GND, M20 GND, N2 GND, N9 GND, N12 GND, N13 VCC, N14 VCC, N15 VCC, N19 GND, P5 GND, P12 VCC, P13 VCC, P14 VCC, P15 GND, P24 GND, R8 GND, R12 GND, R13 VCC, R14 GND, R15 VCC, R18 GND, R21 GND, T2 GND, T9 GND, T25 GND, U7 GND, U19 GND, U22 GND, V5 GND, V9 VCCA1, V11 GND, V13 GND, V16 GND, V18 VCCA4, V20 GND, W2 GND, W8 VCCD_PLL1, W9 GND, W15 GND, W18 GND, W19 VCCD_PLL4, W25 GND, Y23 GND

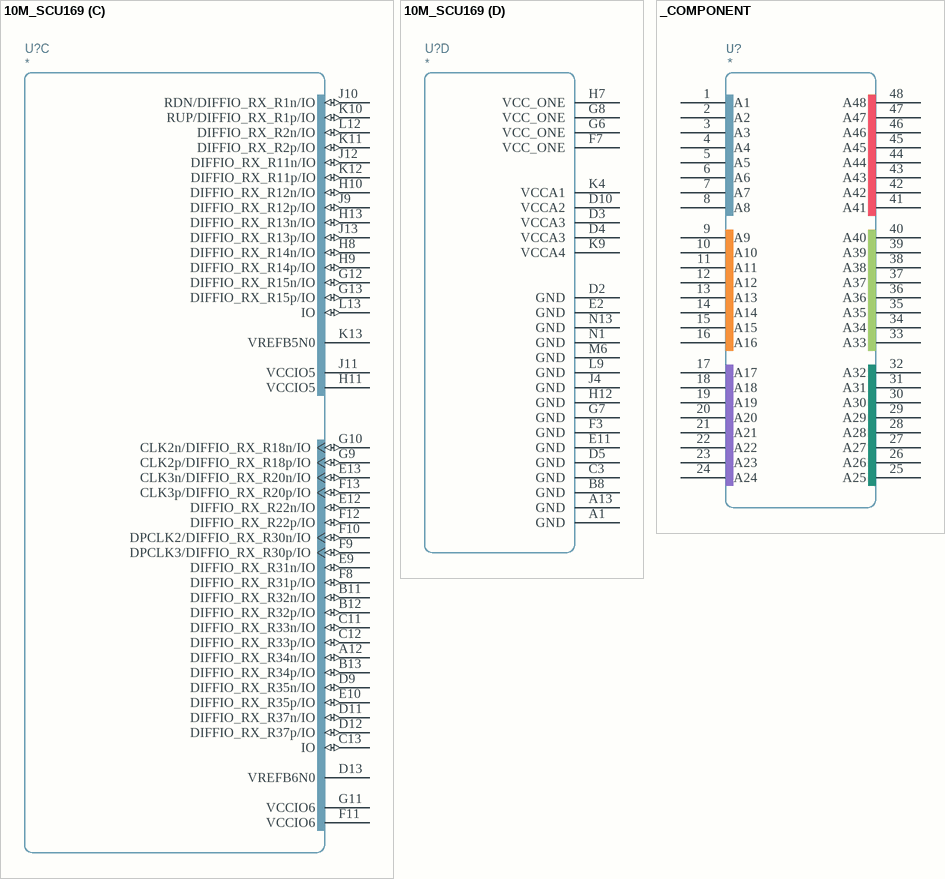
[diagram p7: symbols 10M_SCU169 to _COMPONENT]